# Altium schematic symbol library devices.SCHLIB: 305 symbols (part 2 of 5)
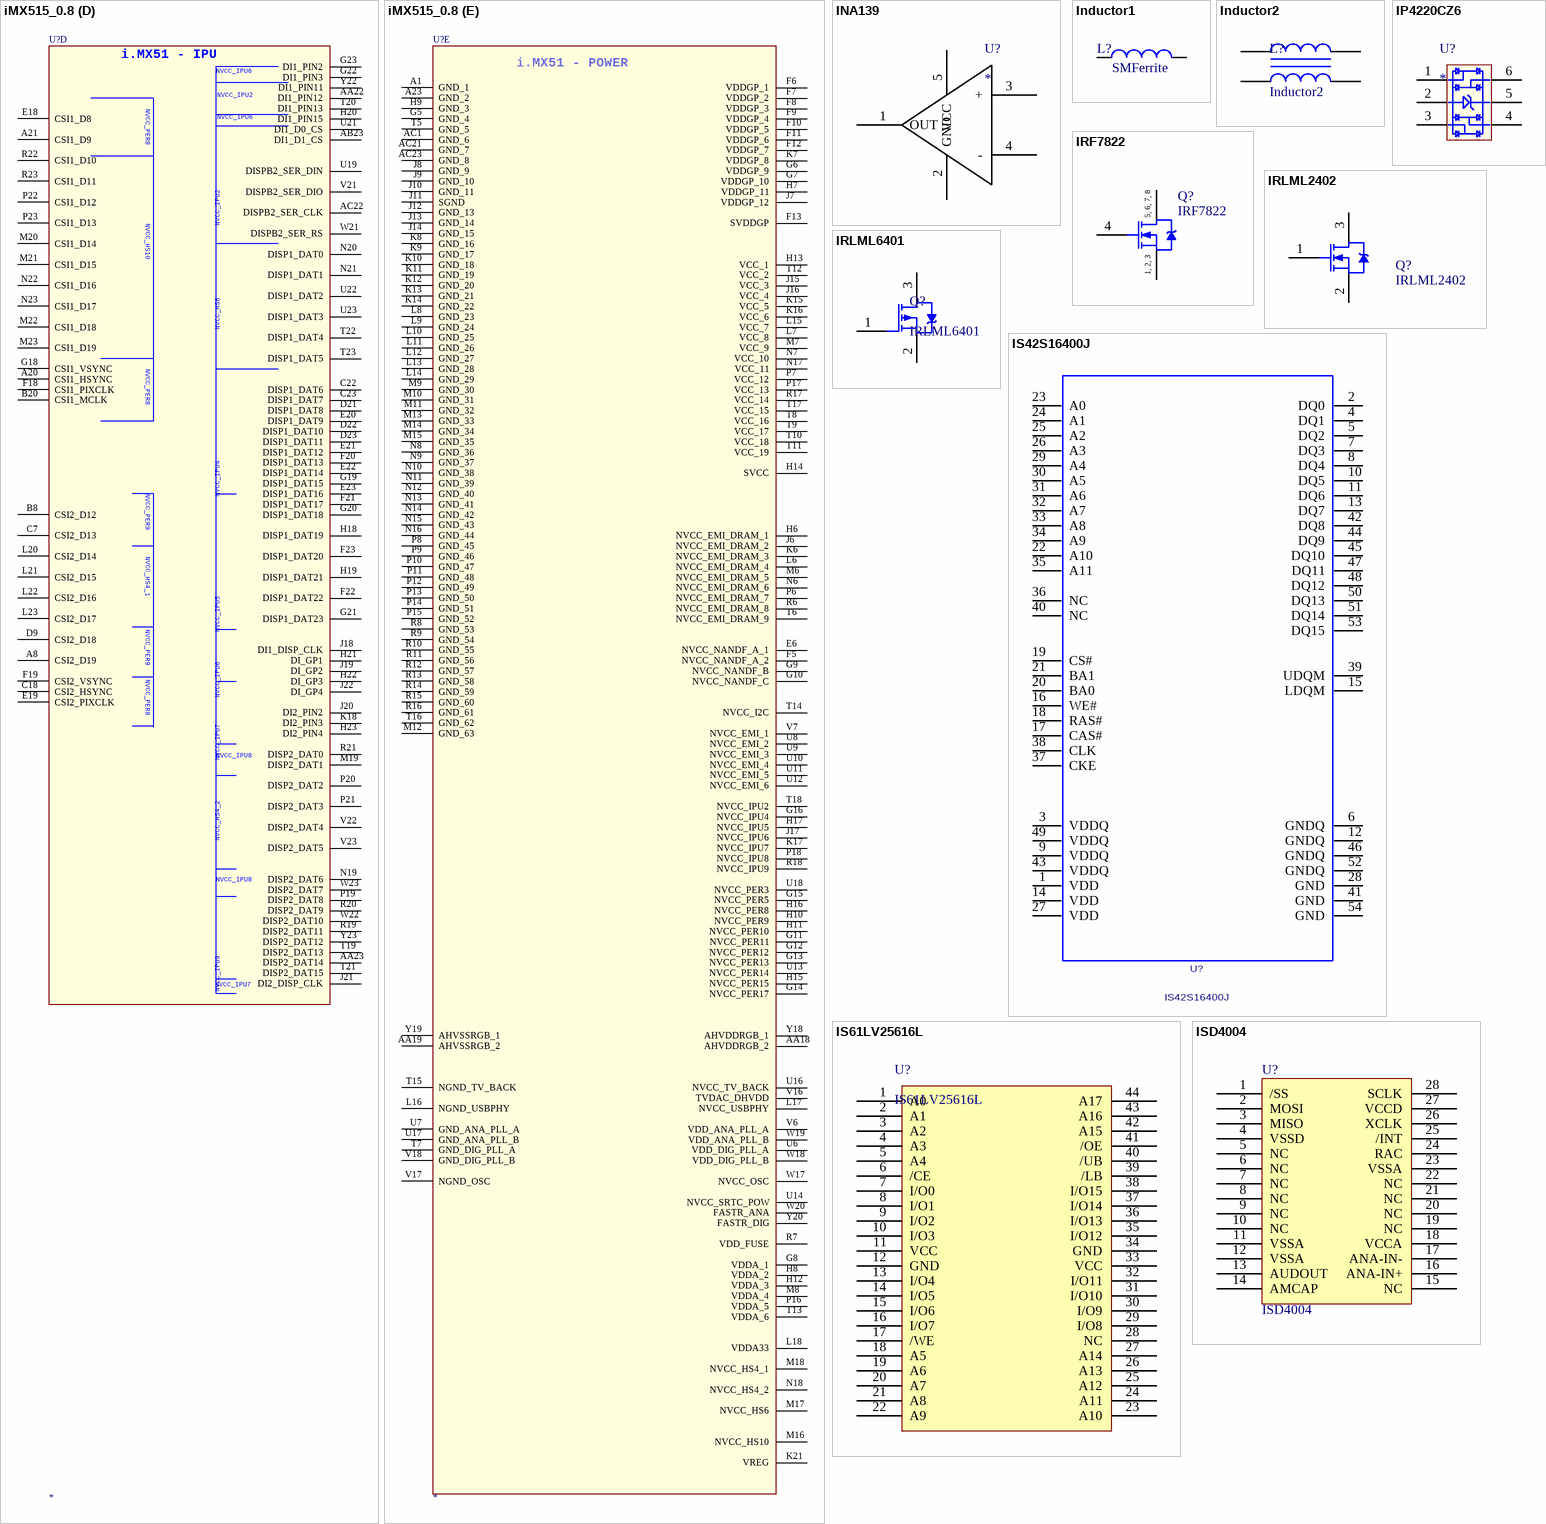
[diagram p50: symbols iMX515_0.8 to ISD4004]

## iMX515_0.8
designator U?
part A pins: A2 NANDF_CS5 (out), A3 NANDF_D13 (io), A4 NANDF_D8 (io), A5 NANDF_D5 (io), A6 NANDF_D2 (io), A7 NANDF_D0 (io), AA1 DRAM_SDCKE0 (out), AA2 DRAM_A1 (out), AA3 DRAM_A2 (out), AA4 EIM_BCLK (io), AA5 EIM_CS5 (out), AA6 EIM_CS4 (out), AA7 EIM_OE (out), AA8 EIM_A19 (io), AA9 EIM_A16 (io), AA10 EIM_D24 (io), AA11 EIM_D18 (io), AA12 EIM_DA12 (io), AA13 EIM_DA6 (io), AA14 EIM_DA2 (io), AB1 DRAM_A0 (out), AB2 EIM_CRE (out), AB3 EIM_RW (out), AB4 EIM_WAIT (in), AB5 EIM_A27 (io), AB6 EIM_A25 (io), AB7 EIM_A22 (io), AB8 EIM_A20 (io), AB9 EIM_A17 (io), AB10 EIM_D26 (io), AB11 EIM_D20 (io), AB12 EIM_DA14 (io), AB13 EIM_DA8 (io), AB14 EIM_DA3 (io), AC2 EIM_LBA (out), AC3 EIM_CS3 (out), AC4 EIM_A26 (io), AC5 EIM_A24 (io), AC6 EIM_A23 (io), AC7 EIM_A21 (io), AC8 EIM_A18 (io), AC9 EIM_D30 (io), AC10 EIM_D28 (io), AC11 EIM_D22 (io), AC12 EIM_D16 (io), AC13 EIM_DA10 (io), AC14 EIM_DA4 (io), AC15 EIM_DA0 (io), B1 NANDF_CS3 (out), B2 NANDF_CS4 (out), B3 NANDF_RDY_INT (in), B4 NANDF_D14 (io), B5 NANDF_D10 (io), B6 NANDF_D6 (io), B7 NANDF_D4 (io), C1 NANDF_RB3 (in), C2 NANDF_CS1 (out), C3 NANDF_CS0 (out), C4 NANDF_CS7 (out), C5 NANDF_D12 (io), C6 NANDF_D7 (io), D1 ~{NANDF_WP} (out), D2 NANDF_RB0 (in), D3 NANDF_RB2 (in), D4 NANDF_RB1 (in), D5 GPIO_NAND (io), D6 NANDF_D15 (io), D7 NANDF_D11 (io), D8 NANDF_D3 (io), E1 ~{NANDF_WE} (out), E2 ~{NANDF_RE} (in), E3 NANDF_ALE (out), E4 NANDF_CS2 (out), E5 NANDF_CS6 (out), E7 NANDF_D9 (io), E8 NANDF_D1 (io), F1 EIM_SDBA2 (out), F2 EIM_SDODT1 (out), F3 EIM_SDODT0 (out), F4 NANDF_CLE (out), G1 DRAM_D28 (io), G2 DRAM_D29 (io), G3 DRAM_D30 (io), G4 DRAM_D31 (io), H1 DRAM_D25 (io), H2 DRAM_D26 (io), H3 DRAM_SDQS3 (io), H4 ~{DRAM_SDQS3} (io), H5 DRAM_DQM3 (out), J1 DRAM_SDQS2 (io), J2 ~{DRAM_SDQS2} (io), J3 DRAM_D22 (io), J4 DRAM_D23 (io), J5 DRAM_D27 (io), K1 DRAM_D19 (io), K2 DRAM_DQM2 (out), K3 DRAM_D20 (io), K4 DRAM_D21 (io), K5 DRAM_D24 (io), L1 DRAM_D18 (io), L2 DRAM_D17 (io), L3 DRAM_D16 (io), L4 DRAM_D15 (io), L5 DRAM_D14 (io), M1 DRAM_D12 (io), M2 DRAM_DQM1 (out), M3 DRAM_D10 (io), M4 DRAM_D11 (io), M5 DRAM_D13 (io), N1 DRAM_D9 (io), N2 DRAM_D8 (io), N3 ~{DRAM_SDQS1} (io), N4 DRAM_SDQS1 (io), N5 DRAM_D7 (io), P1 ~{DRAM_SDQS0} (io), P2 DRAM_SDQS0 (io), P3 DRAM_DQM0 (out), P4 DRAM_D6 (io), P5 DRAM_D5 (io), R1 DRAM_D3 (io), R2 DRAM_D2 (io), R3 DRAM_D1 (io), R4 DRAM_D4 (io), R5 VREF, T1 DRAM_D0 (io), T2 DRAM_A14 (out), T3 DRAM_SDCLK (out), T4 ~{DRAM_SDCLK} (out), U1 DRAM_A13 (out), U2 DRAM_A12 (out), U3 EIM_SDBA1 (out), U4 DRAM_A11 (out), U5 DRAM_SDWE (out), V1 EIM_SDBA0 (out), V2 DRAM_A10 (out), V3 DRAM_A9 (out), V4 DRAM_CAS (out), V5 DRAM_A3 (out), V8 EIM_D23 (io), V9 EIM_EB3 (out), V10 EIM_EB2 (out), V11 EIM_DA11 (io), V12 EIM_EB0 (out), V13 EIM_DA1 (io), W1 DRAM_RAS (out), W2 DRAM_A8 (out), W3 DRAM_A6 (out), W4 DRAM_A4 (out), W5 DRAM_SDCKE1 (out), W6 EIM_CS0 (out), W7 EIM_D31 (io), W8 EIM_D27 (io), W9 EIM_D21 (io), W10 EIM_D17 (io), W11 EIM_DA13 (io), W12 EIM_EB1 (out), W13 EIM_DA7 (io), Y1 DRAM_A7 (out), Y2 DRAM_A5 (out), Y3 DRAM_CS1 (out), Y4 DRAM_CS0 (out), Y5 EIM_DTACK (out), Y6 EIM_CS1 (out), Y7 EIM_CS2 (out), Y8 EIM_D29 (io), Y9 EIM_D25 (io), Y10 EIM_D19 (io), Y11 EIM_DA15 (io), Y12 EIM_DA9 (io), Y13 EIM_DA5 (io)
part B pins: A9 AUD3_BB_FS, A10 CSPI1_SCLK, A11 USBH1_DATA1, A12 USBH1_DATA5, A13 UART1_TXD, A14 UART2_RXD, A16 KEY_COL1, A17 SD1_CLK, A18 SD1_DATA1, A19 SD1_DATA3, AB16 I2C1_DAT, AB17 IOR_BACK (in), AB18 IOG_BACK (in), AB19 IOB_BACK (in), AC17 IOR (out), AC18 IOG (out), AC19 IOB (out), B9 AUD3_BB_RXD, B10 CSPI1_SS1, B11 USBH1_DIR, B12 USBH1_DATA2, B13 USBH1_DATA6, B14 UART1_CTS, B15 UART3_TXD, B16 KEY_ROW1, B17 KEY_COL3, B18 SD2_CLK, B19 SD2_DATA1, C8 AUD3_BB_CK, C9 CSPI1_RDY, C10 CSPI1_MISO, C11 USBH1_NXT, C12 USBH1_DATA3, C13 USBH1_DATA7, C14 UART2_TXD, C15 KEY_ROW3, C16 KEY_COL5, C17 SD2_DATA3, D10 CSPI1_MOSI, D11 USBH1_CLK, D12 USBH1_DATA4, D13 UART1_RTS, D14 KEY_ROW0, D15 KEY_COL2, D16 SD1_DATA0, D17 SD2_DATA2, E9 AUD3_BB_TXD, E10 CSPI1_SS0, E11 USBH1_STP, E12 USBH1_DATA0, E13 UART1_RXD, E14 OWIRE_LINE, E15 KEY_COL0, E16 SD1_CMD, E17 SD2_DATA0, F14 UART3_RXD, F15 KEY_ROW2, F16 KEY_COL4, F17 SD1_DATA2, G17 SD2_CMD, K19 RREFEXT, K20 VBUS (in), K22 DN (io), K23 DP (io), L19 ID (in), U15 VREFOUT, W15 I2C1_CLK, Y17 COMP
part C pins: A15 STR, A22 GPIO1_2 (io), AA15 JTAG_TDO (out), AA16 PMIC_INT_REQ, AA17 PMIC_RDY, AA20 CKIH2 (in), AA21 CLK_SS (in), AB15 ~{JTAG_DE} (in), AB20 EXTAL, AB21 BOOT_MODE0 (io), AB22 BOOT_MODE1 (io), AC16 JTAG_TMS (in), AC20 XTAL, B21 GPIO1_0 (io), B22 GPIO1_4 (io), B23 GPIO1_7 (io), C19 GPIO1_6 (io), C20 GPIO1_9 (io), C21 GPIO1_8 (io), D18 GPIO1_3 (io), D19 GPIO1_5 (io), D20 GPIO1_1 (io), J23 GPANAIO, U20 ~{POR} (in), V14 JTAG_MOD (in), V15 JTAG_TCK (in), V19 CKIH1 (in), V20 TEST_MODE (in), W14 JTAG_TRSTB (in), W16 PMIC_ON_REQ, Y14 JTAG_TDI (in), Y15 PMIC_STBY_REQ, Y16 CKIL (in), Y21 ~{RESET_IN} (in)
part D pins: A8 CSI2_D19, A20 CSI1_HSYNC, A21 CSI1_D9, AA22 DI1_PIN12, AA23 DISP2_DAT14, AB23 DI1_D1_CS, AC22 DISPB2_SER_CLK, B8 CSI2_D12, B20 CSI1_MCLK, C7 CSI2_D13, C18 CSI2_HSYNC, C22 DISP1_DAT6, C23 DISP1_DAT7, D9 CSI2_D18, D21 DISP1_DAT8, D22 DISP1_DAT10, D23 DISP1_DAT11, E18 CSI1_D8, E19 CSI2_PIXCLK, E20 DISP1_DAT9, E21 DISP1_DAT12, E22 DISP1_DAT14, E23 DISP1_DAT16, F18 CSI1_PIXCLK, F19 CSI2_VSYNC, F20 DISP1_DAT13, F21 DISP1_DAT17, F22 DISP1_DAT22, F23 DISP1_DAT20, G18 CSI1_VSYNC, G19 DISP1_DAT15, G20 DISP1_DAT18, G21 DISP1_DAT23, G22 DI1_PIN3, G23 DI1_PIN2, H18 DISP1_DAT19, H19 DISP1_DAT21, H20 DI1_PIN15, H21 DI_GP1, H22 DI_GP3, H23 DI2_PIN4, J18 DI1_DISP_CLK, J19 DI_GP2, J20 DI2_PIN2, J21 DI2_DISP_CLK, J22 DI_GP4, K18 DI2_PIN3, L20 CSI2_D14, L21 CSI2_D15, L22 CSI2_D16, L23 CSI2_D17, M19 DISP2_DAT1, M20 CSI1_D14, M21 CSI1_D15, M22 CSI1_D18, M23 CSI1_D19, N19 DISP2_DAT6, N20 DISP1_DAT0, N21 DISP1_DAT1, N22 CSI1_D16, N23 CSI1_D17, P19 DISP2_DAT8, P20 DISP2_DAT2, P21 DISP2_DAT3, P22 CSI1_D12, P23 CSI1_D13, R19 DISP2_DAT11, R20 DISP2_DAT9, R21 DISP2_DAT0, R22 CSI1_D10, R23 CSI1_D11, T19 DISP2_DAT13, T20 DI1_PIN13, T21 DISP2_DAT15, T22 DISP1_DAT4, T23 DISP1_DAT5, U19 DISPB2_SER_DIN, U21 DI1_D0_CS, U22 DISP1_DAT2, U23 DISP1_DAT3, V21 DISPB2_SER_DIO, V22 DISP2_DAT4, V23 DISP2_DAT5, W21 DISPB2_SER_RS, W22 DISP2_DAT10, W23 DISP2_DAT7, Y22 DI1_PIN11, Y23 DISP2_DAT12
part E pins: A1 GND_1 (power), A23 GND_2 (power), AA18 AHVDDRGB_2 (power), AA19 AHVSSRGB_2 (power), AC1 GND_6 (power), AC21 GND_7 (power), AC23 GND_8 (power), E6 NVCC_NANDF_A_1 (power), F5 NVCC_NANDF_A_2 (power), F6 VDDGP_1 (power), F7 VDDGP_2 (power), F8 VDDGP_3 (power), F9 VDDGP_4 (power), F10 VDDGP_5 (power), F11 VDDGP_6 (power), F12 VDDGP_7 (power), F13 SVDDGP (power), G5 GND_4 (power), G6 VDDGP_9 (power), G7 VDDGP_10 (power), G8 VDDA_1 (power), G9 NVCC_NANDF_B (power), G10 NVCC_NANDF_C (power), G11 NVCC_PER11 (power), G12 NVCC_PER12 (power), G13 NVCC_PER13 (power), G14 NVCC_PER17 (power), G15 NVCC_PER5 (power), G16 NVCC_IPU4 (power), H6 NVCC_EMI_DRAM_1 (power), H7 VDDGP_11 (power), H8 VDDA_2 (power), H9 GND_3 (power), H10 NVCC_PER9 (power), H11 NVCC_PER10 (power), H12 VDDA_3 (power), H13 VCC_1 (power), H14 SVCC (power), H15 NVCC_PER15 (power), H16 NVCC_PER8 (power), H17 NVCC_IPU5 (power), J6 NVCC_EMI_DRAM_2 (power), J7 VDDGP_12 (power), J8 GND_9 (power), J9 GND_10 (power), J10 GND_11 (power), J11 SGND (power), J12 GND_13 (power), J13 GND_14 (power), J14 GND_15 (power), J15 VCC_3 (power), J16 VCC_4 (power), J17 NVCC_IPU6 (power), K6 NVCC_EMI_DRAM_3 (power), K7 VDDGP_8 (power), K8 GND_16 (power), K9 GND_17 (power), K10 GND_18 (power), K11 GND_19 (power), K12 GND_20 (power), K13 GND_21 (power), K14 GND_22 (power), K15 VCC_5 (power), K16 VCC_6 (power), K17 NVCC_IPU7 (power), K21 VREG (power), L6 NVCC_EMI_DRAM_4 (power), L7 VCC_8 (power), L8 GND_23 (power), L9 GND_24 (power), L10 GND_25 (power), L11 GND_26 (power), L12 GND_27 (power), L13 GND_28 (power), L14 GND_29 (power), L15 VCC_7 (power), L16 NGND_USBPHY (power), L17 NVCC_USBPHY (power), L18 VDDA33 (power), M6 NVCC_EMI_DRAM_5 (power), M7 VCC_9 (power), M8 VDDA_4 (power), M9 GND_30 (power), M10 GND_31 (power), M11 GND_32 (power), M12 GND_63 (power), M13 GND_33 (power), M14 GND_34 (power), M15 GND_35 (power), M16 NVCC_HS10 (power), M17 NVCC_HS6 (power), M18 NVCC_HS4_1 (power), N6 NVCC_EMI_DRAM_6 (power), N7 VCC_10 (power), N8 GND_36 (power), N9 GND_37 (power), N10 GND_38 (power), N11 GND_39 (power), N12 GND_40 (power), N13 GND_41 (power), N14 GND_42 (power), N15 GND_43 (power), N16 GND_44 (power), N17 VCC_11 (power), N18 NVCC_HS4_2 (power), P6 NVCC_EMI_DRAM_7 (power), P7 VCC_12 (power), P8 GND_45 (power), P9 GND_46 (power), P10 GND_47 (power), P11 GND_48 (power), P12 GND_49 (power), P13 GND_50 (power), P14 GND_51 (power), P15 GND_52 (power), P16 VDDA_5 (power), P17 VCC_13 (power), P18 NVCC_IPU8 (power), R6 NVCC_EMI_DRAM_8 (power), R7 VDD_FUSE (power), R8 GND_53 (power), R9 GND_54 (power), R10 GND_55 (power), R11 GND_56 (power), R12 GND_57 (power), R13 GND_58 (power), R14 GND_59 (power), R15 GND_60 (power), R16 GND_61 (power), R17 VCC_14 (power), R18 NVCC_IPU9 (power), T5 GND_5 (power), T6 NVCC_EMI_DRAM_9 (power), T7 GND_DIG_PLL_A (power), T8 VCC_16 (power), T9 VCC_17 (power), T10 VCC_18 (power), T11 VCC_19 (power), T12 VCC_2 (power), T13 VDDA_6 (power), T14 NVCC_I2C (power), T15 NGND_TV_BACK (power), T16 GND_62 (power), T17 VCC_15 (power), T18 NVCC_IPU2 (power), U6 VDD_DIG_PLL_A (power), U7 GND_ANA_PLL_A (power), U8 NVCC_EMI_2 (power), U9 NVCC_EMI_3 (power), U10 NVCC_EMI_4 (power), U11 NVCC_EMI_5 (power), U12 NVCC_EMI_6 (power), U13 NVCC_PER14 (power), U14 NVCC_SRTC_POW (power), U16 NVCC_TV_BACK (power), U17 GND_ANA_PLL_B (power), U18 NVCC_PER3 (power), V6 VDD_ANA_PLL_A (power), V7 NVCC_EMI_1 (power), V16 TVDAC_DHVDD (power), V17 NGND_OSC (power), V18 GND_DIG_PLL_B (power), W17 NVCC_OSC (power), W18 VDD_DIG_PLL_B (power), W19 VDD_ANA_PLL_B (power), W20 FASTR_ANA (power), Y18 AHVDDRGB_1 (power), Y19 AHVSSRGB_1 (power), Y20 FASTR_DIG (power)
part A text: i.MX51 - MEMORY INTERFACE; EMI; DDR; NVCC_EMI; NVCC_EMI_DRAM; NVCC_NANDF_A; NAND FLASH
part B text: i.MX51 - MISC.
part C text: i.MX51 - CONTROL PINS; NVCC_SRTC
part D text: i.MX51 - IPU
part E text: i.MX51 - POWER

## INA139
designator U?
pins: 1 OUT, 2 GND, 3 +, 4 -, 5 VCC

## Inductor1
designator L?, comment SMFerrite
Inductor; Code_IEC: 1005; Published: 8-Jun-2000; LatestRevisionDate: 17-Jul-2002; LatestRevisionNote: Re-released for DXP Platform.; PackageReference: 0402-A; Publisher: Altium Limited; Code_JEITA: 0402
footprint 0805C
footprint INDC1608-0603 (Chip Inductor; Body 1.6 x 0.8 mm (LxW typ))
footprint INDC2010-0804 (2012 Chip; Chip Inductor; Body 2.0 x 1.2 mm (LxW typ))
footprint INDC2012-0805 (Chip Inductor; Body 2 x 1.2 mm (LxW typ))
footprint INDC3216-1206 (3216 Chip; Chip Inductor; Body 3.2 x 1.6 mm (LxW typ))
footprint INDC4510-1804 (4564 Chip; Chip Inductor; Body 4.5 x 6.4 mm (LxW typ))
simulation model INDUCTOR (Inductor)
signal-integrity model Inductor
pins: 1, 2

## Inductor2
designator L?
Magnetic-Core Inductor; Published: 24-Mar-1999; LatestRevisionDate: 17-Jul-2002; LatestRevisionNote: Re-released for DXP Platform.; PackageReference: AXIAL-0.9; Publisher: Altium Limited; PackageDescription: Axial Device, Thru-Hole; 2 Leads; 0.9 in Pin Spacing
pins: 1, 2, 3, 4

## IP4220CZ6
designator U?
pins: 1, 2, 3, 4, 5, 6

## IRF7822
designator Q?
HEXFET Power MOSFET; Published: 17-Sep-2003; LatestRevisionDate: 13-Apr-2006; LatestRevisionNote: IPC-7351 Footprint Added.; DatasheetVersion: 11-Jul-2001; PackageVersion: Feb-2001; PackageReference: SO-8; Publisher: Altium Limited; PackageDescription: 8-Pin Plastic Small Outline Integrated Circuit 1.27 mm Pitch; Code_JEDEC: MS-012-AA; Code_IPC: SOIC127P600-8; ComponentLink1Description: Manufacturer Link; ComponentLink1URL: http://www.irf.com/; ComponentLink2Description: Datasheet; ComponentLink2URL: http://www.irf.com/product-info/datasheets/data/irf7822.pdf
footprint SO-8_N (SOIC, 8-Leads, Body 4.9x3.9mm, Pitch 1.27mm, IPC Medium Density)
footprint SO-8_L (SOIC, 8-Leads, Body 4.9x3.9mm, Pitch 1.27mm, IPC High Density)
footprint SO-8_M (SOIC, 8-Leads, Body 4.9x3.9mm, Pitch 1.27mm, IPC Low Density)
3D model SO-8 (8-Pin Plastic Small Outline Integrated Circuit 1.27 mm Pitch)
pins: 1 S, 2 S, 3 S, 4 G, 5 D, 6 D, 7 D, 8 D
text: 5, 6, 7, 8; 1, 2, 3

## IRLML2402
designator Q?
HEXFET Power MOSFET; Published: 8-Jun-2000; LatestRevisionDate: 17-Jul-2002; LatestRevisionNote: Re-released for DXP Platform.; DatasheetVersion: Aug-1997; PackageReference: SOT-23; Publisher: Altium Limited; PackageDescription: SOT-23; 3 Leads; Body 3.1 x 2.5 mm, inc. leads (LxW max); ComponentLink1Description: Manufacturer Link; ComponentLink1URL: http://www.irf.com/; ComponentLink2Description: Datasheet; ComponentLink2URL: http://www.irf.com/product-info/datasheets/data/irlml2402.pdf
footprint SOT-23 (SOT-23; 3 Leads; Body 3.1 x 2.5 mm, inc. leads (LxW max))
simulation model IRLML2402 (SUBCKT)
pins: 1 G, 2 S, 3 D

## IRLML6401
designator Q?
footprint SOT-23 (SOT-23; 3 Leads; Body 3.0 x 2.6 mm, inc. leads (LxW max))
pins: 1 G, 2 S, 3 D

## IS42S16400J
designator U?
PCB DECAL: TSOP-54
footprint TSOP-54
pins: 1 VDD, 2 DQ0, 3 VDDQ, 4 DQ1, 5 DQ2, 6 GNDQ, 7 DQ3, 8 DQ4, 9 VDDQ, 10 DQ5, 11 DQ6, 12 GNDQ, 13 DQ7, 14 VDD, 15 LDQM, 16 WE#, 17 CAS#, 18 RAS#, 19 CS#, 20 BA0, 21 BA1, 22 A10, 23 A0, 24 A1, 25 A2, 26 A3, 27 VDD, 28 GND, 29 A4, 30 A5, 31 A6, 32 A7, 33 A8, 34 A9, 35 A11, 36 NC, 37 CKE, 38 CLK, 39 UDQM, 40 NC, 41 GND, 42 DQ8, 43 VDDQ, 44 DQ9, 45 DQ10, 46 GNDQ, 47 DQ11, 48 DQ12, 49 VDDQ, 50 DQ13, 51 DQ14, 52 GNDQ, 53 DQ15, 54 GND

## IS61LV25616L
designator U?
pins: 1 A0, 2 A1, 3 A2, 4 A3, 5 A4, 6 /CE, 7 I/O0, 8 I/O1, 9 I/O2, 10 I/O3, 11 VCC, 12 GND, 13 I/O4, 14 I/O5, 15 I/O6, 16 I/O7, 17 /WE, 18 A5, 19 A6, 20 A7, 21 A8, 22 A9, 23 A10, 24 A11, 25 A12, 26 A13, 27 A14, 28 NC, 29 I/O8, 30 I/O9, 31 I/O10, 32 I/O11, 33 VCC, 34 GND, 35 I/O12, 36 I/O13, 37 I/O14, 38 I/O15, 39 /LB, 40 /UB, 41 /OE, 42 A15, 43 A16, 44 A17

## ISD4004
designator U?
pins: 1 /SS, 2 MOSI, 3 MISO, 4 VSSD, 5 NC, 6 NC, 7 NC, 8 NC, 9 NC, 10 NC, 11 VSSA, 12 VSSA, 13 AUDOUT, 14 AMCAP, 15 NC, 16 ANA-IN+, 17 ANA-IN-, 18 VCCA, 19 NC, 20 NC, 21 NC, 22 NC, 23 VSSA, 24 RAC, 25 /INT, 26 XCLK, 27 VCCD, 28 SCLK

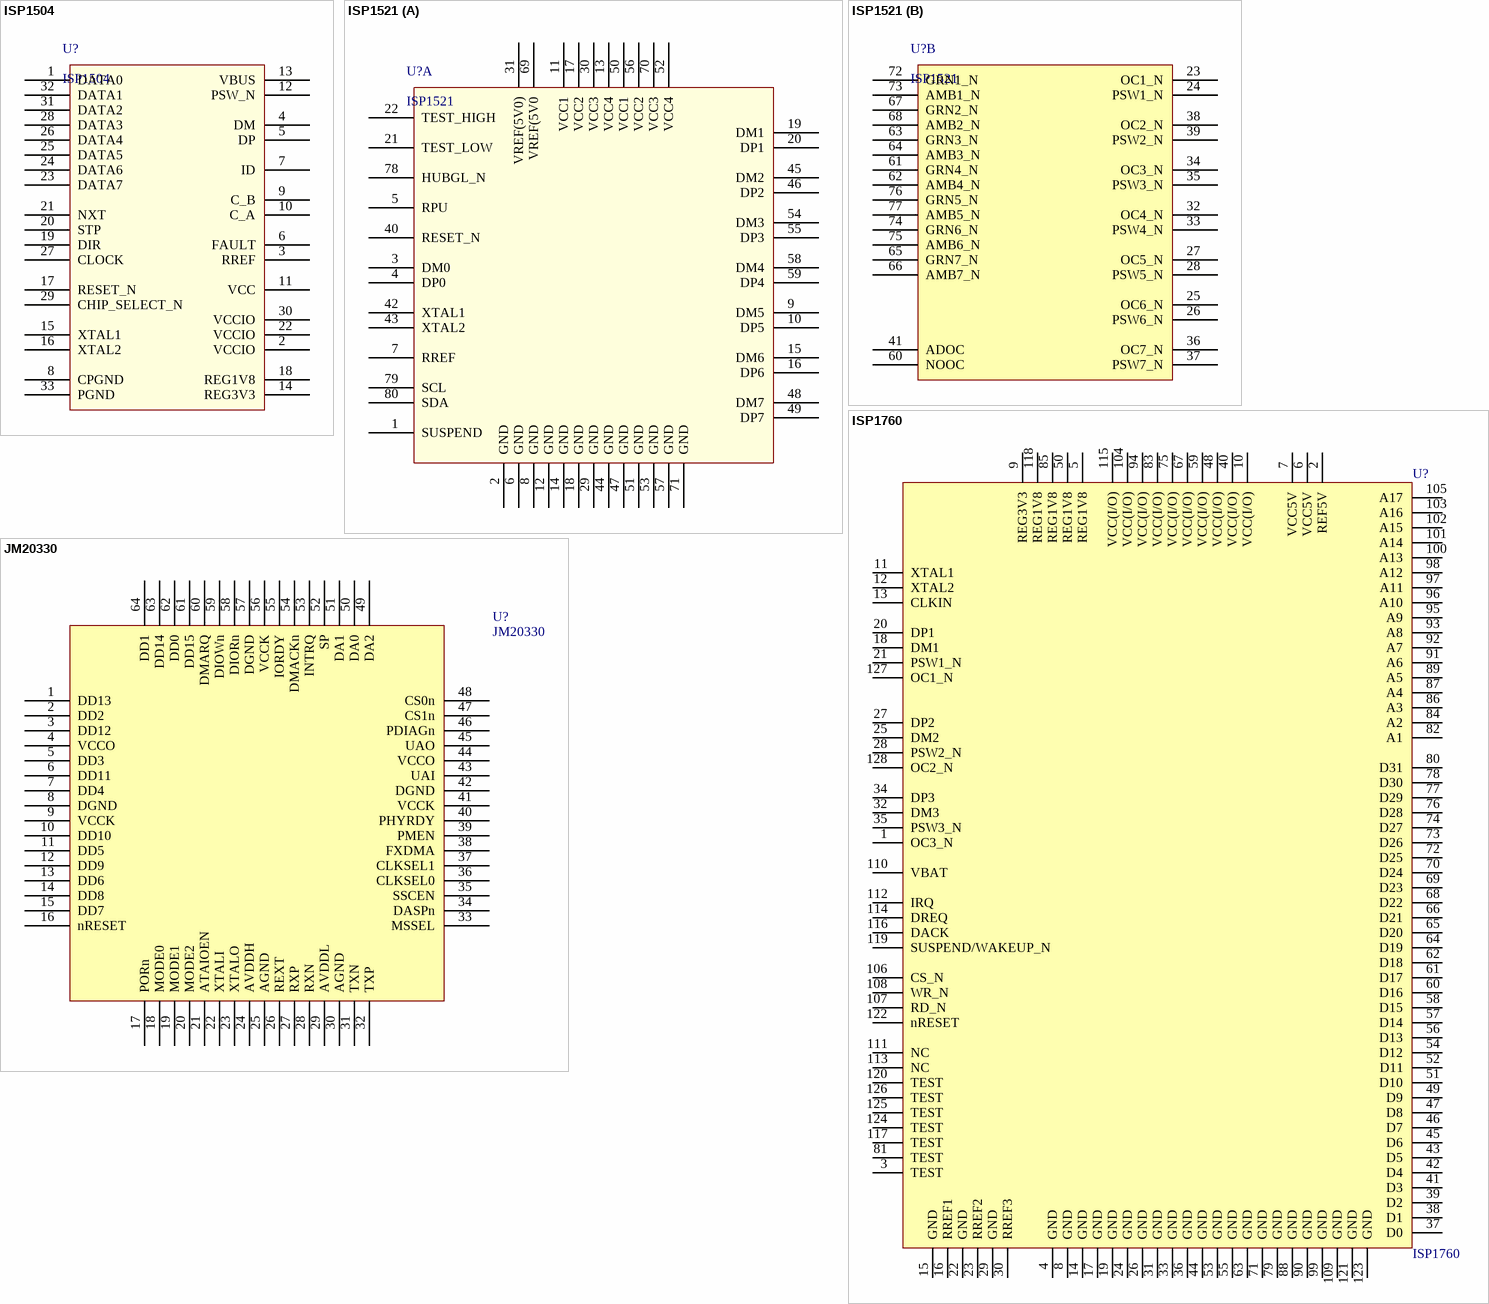
[diagram p8: symbols ISP1504 to JM20330]

## ISP1504
designator U?
pins: 1 DATA0, 2 VCCIO, 3 RREF, 4 DM, 5 DP, 6 FAULT, 7 ID, 8 CPGND, 9 C_B, 10 C_A, 11 VCC, 12 PSW_N, 13 VBUS, 14 REG3V3, 15 XTAL1, 16 XTAL2, 17 RESET_N, 18 REG1V8, 19 DIR, 20 STP, 21 NXT, 22 VCCIO, 23 DATA7, 24 DATA6, 25 DATA5, 26 DATA4, 27 CLOCK, 28 DATA3, 29 CHIP_SELECT_N, 30 VCCIO, 31 DATA2, 32 DATA1, 33 PGND

## ISP1521
designator U?
part A pins: 1 SUSPEND, 2 GND, 3 DM0, 4 DP0, 5 RPU, 6 GND, 7 RREF, 8 GND, 9 DM5, 10 DP5, 11 VCC1, 12 GND, 13 VCC4, 14 GND, 15 DM6, 16 DP6, 17 VCC2, 18 GND, 19 DM1, 20 DP1, 21 TEST_LOW, 22 TEST_HIGH, 29 GND, 30 VCC3, 31 VREF(5V0), 40 RESET_N, 42 XTAL1, 43 XTAL2, 44 GND, 45 DM2, 46 DP2, 47 GND, 48 DM7, 49 DP7, 50 VCC1, 51 GND, 52 VCC4, 53 GND, 54 DM3, 55 DP3, 56 VCC2, 57 GND, 58 DM4, 59 DP4, 69 VREF(5V0, 70 VCC3, 71 GND, 78 HUBGL_N, 79 SCL, 80 SDA
part B pins: 23 OC1_N, 24 PSW1_N, 25 OC6_N, 26 PSW6_N, 27 OC5_N, 28 PSW5_N, 32 OC4_N, 33 PSW4_N, 34 OC3_N, 35 PSW3_N, 36 OC7_N, 37 PSW7_N, 38 OC2_N, 39 PSW2_N, 41 ADOC, 60 NOOC, 61 GRN4_N, 62 AMB4_N, 63 GRN3_N, 64 AMB3_N, 65 GRN7_N, 66 AMB7_N, 67 GRN2_N, 68 AMB2_N, 72 GRN1_N, 73 AMB1_N, 74 GRN6_N, 75 AMB6_N, 76 GRN5_N, 77 AMB5_N

## ISP1760
designator U?
footprint LQFP128
pins: 1 OC3_N, 2 REF5V, 3 TEST, 4 GND, 5 REG1V8, 6 VCC5V, 7 VCC5V, 8 GND, 9 REG3V3, 10 VCC(I/O), 11 XTAL1, 12 XTAL2, 13 CLKIN, 14 GND, 15 GND, 16 RREF1, 17 GND, 18 DM1, 19 GND, 20 DP1, 21 PSW1_N, 22 GND, 23 RREF2, 24 GND, 25 DM2, 26 GND, 27 DP2, 28 PSW2_N, 29 GND, 30 RREF3, 31 GND, 32 DM3, 33 GND, 34 DP3, 35 PSW3_N, 36 GND, 37 D0, 38 D1, 39 D2, 40 VCC(I/O), 41 D3, 42 D4, 43 D5, 44 GND, 45 D6, 46 D7, 47 D8, 48 VCC(I/O), 49 D9, 50 REG1V8, 51 D10, 52 D11, 53 GND, 54 D12, 55 GND, 56 D13, 57 D14, 58 D15, 59 VCC(I/O), 60 D16, 61 D17, 62 D18, 63 GND, 64 D19, 65 D20, 66 D21, 67 VCC(I/O), 68 D22, 69 D23, 70 D24, 71 GND, 72 D25, 73 D26, 74 D27, 75 VCC(I/O), 76 D28, 77 D29, 78 D30, 79 GND, 80 D31, 81 TEST, 82 A1, 83 VCC(I/O), 84 A2, 85 REG1V8, 86 A3, 87 A4, 88 GND, 89 A5, 90 GND, 91 A6, 92 A7, 93 A8, 94 VCC(I/O), 95 A9, 96 A10, 97 A11, 98 A12, 99 GND, 100 A13, 101 A14, 102 A15, 103 A16, 104 VCC(I/O), 105 A17, 106 CS_N, 107 RD_N, 108 WR_N, 109 GND, 110 VBAT, 111 NC, 112 IRQ, 113 NC, 114 DREQ, 115 VCC(I/O), 116 DACK, 117 TEST, 118 REG1V8, 119 SUSPEND/WAKEUP_N, 120 TEST, 121 GND, 122 nRESET, 123 GND, 124 TEST, 125 TEST, 126 TEST, 127 OC1_N, 128 OC2_N

## JM20330
designator U?
pins: 1 DD13, 2 DD2, 3 DD12, 4 VCCO, 5 DD3, 6 DD11, 7 DD4, 8 DGND, 9 VCCK, 10 DD10, 11 DD5, 12 DD9, 13 DD6, 14 DD8, 15 DD7, 16 nRESET, 17 PORn, 18 MODE0, 19 MODE1, 20 MODE2, 21 ATAIOEN, 22 XTALI, 23 XTALO, 24 AVDDH, 25 AGND, 26 REXT, 27 RXP, 28 RXN, 29 AVDDL, 30 AGND, 31 TXN, 32 TXP, 33 MSSEL, 34 DASPn, 35 SSCEN, 36 CLKSEL0, 37 CLKSEL1, 38 FXDMA, 39 PMEN, 40 PHYRDY, 41 VCCK, 42 DGND, 43 UAI, 44 VCCO, 45 UAO, 46 PDIAGn, 47 CS1n, 48 CS0n, 49 DA2, 50 DA0, 51 DA1, 52 SP, 53 INTRQ, 54 DMACKn, 55 IORDY, 56 VCCK, 57 DGND, 58 DIORn, 59 DIOWn, 60 DMARQ, 61 DD15, 62 DD0, 63 DD14, 64 DD1

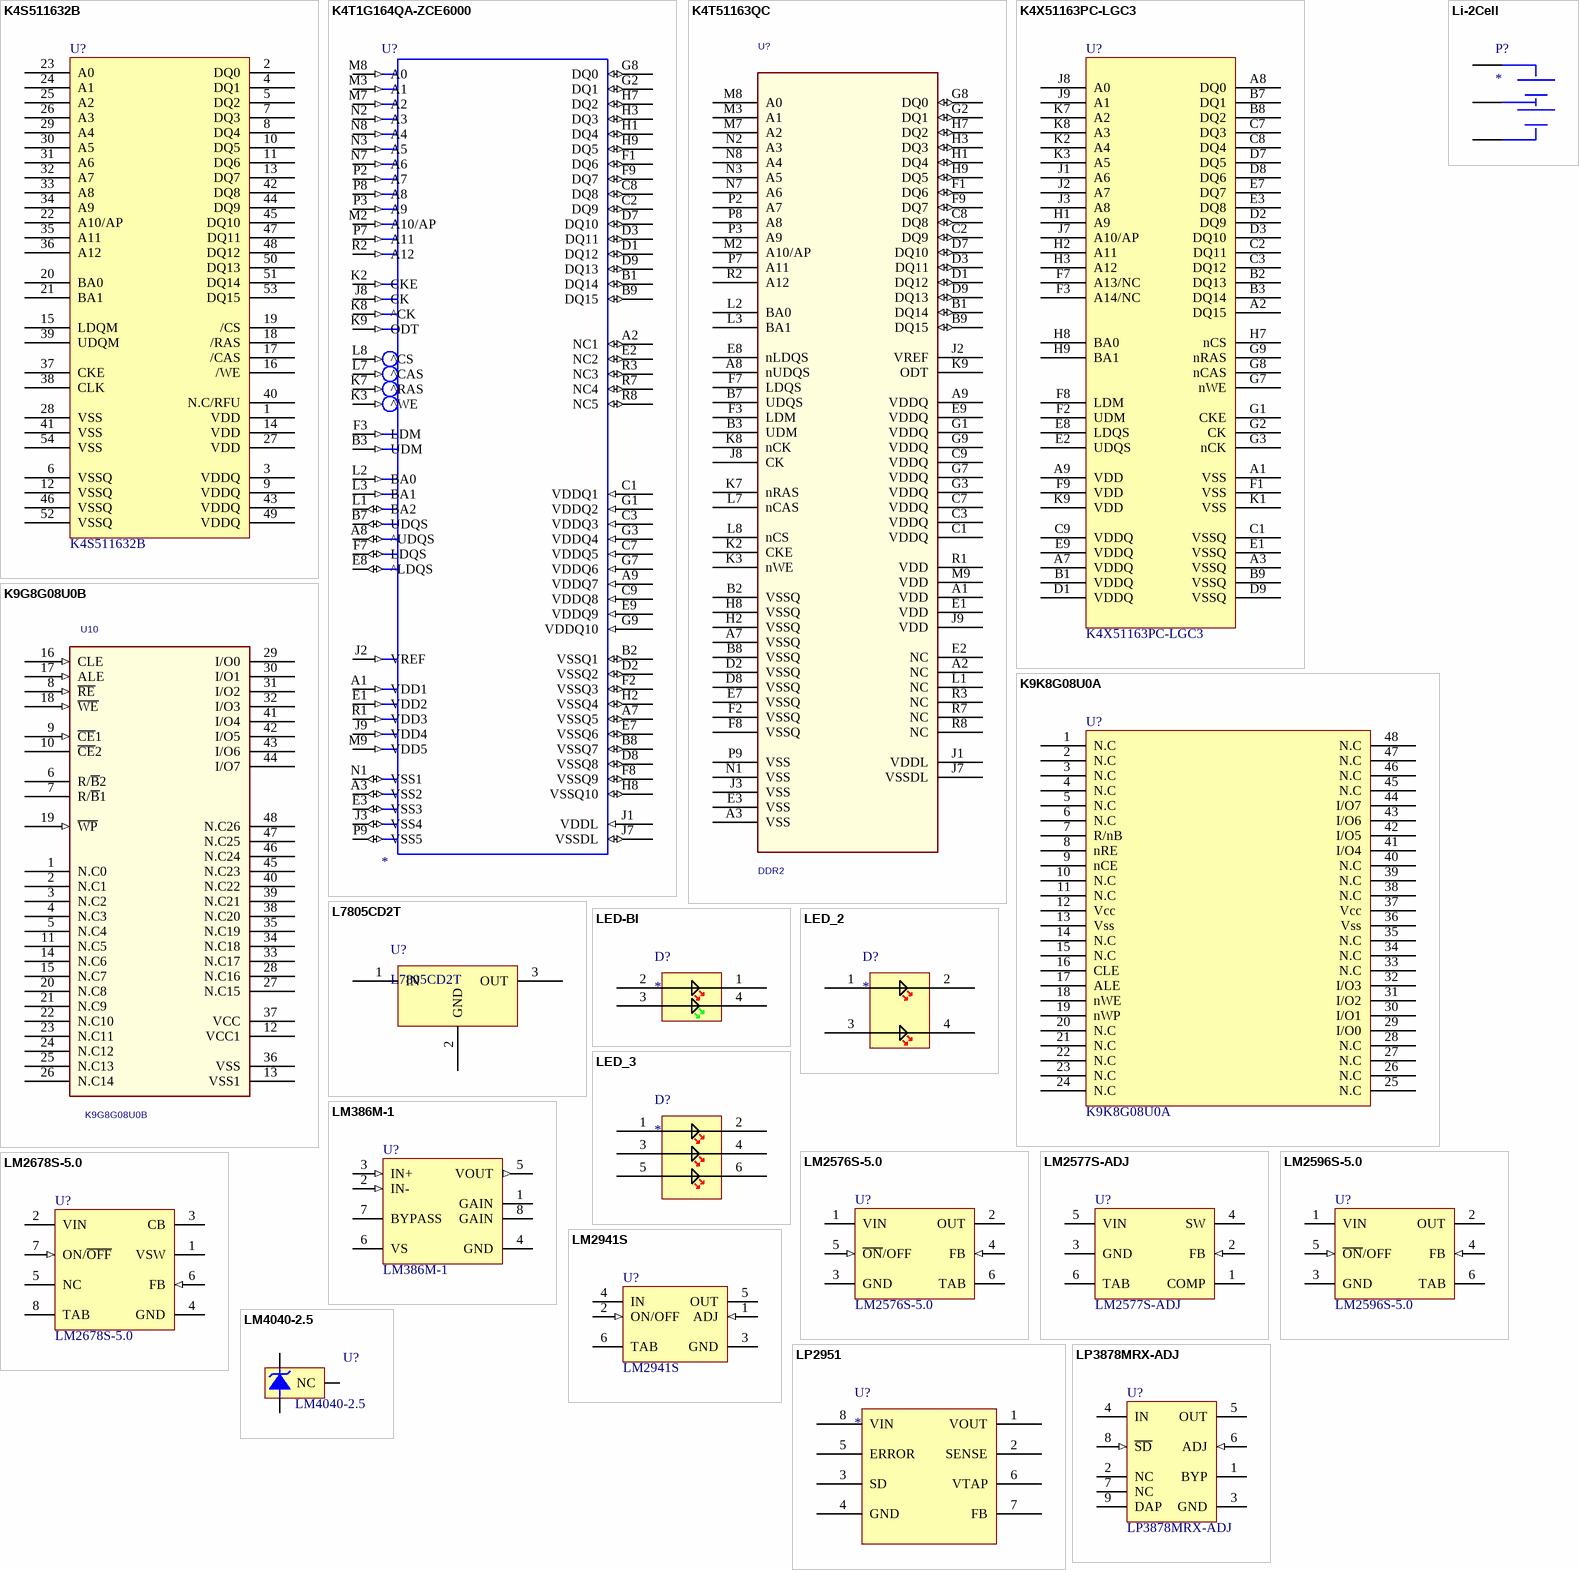
[diagram p9: symbols K4S511632B to LP3878MRX-ADJ]

## K4S511632B
designator U?
pins: 1 VDD, 2 DQ0, 3 VDDQ, 4 DQ1, 5 DQ2, 6 VSSQ, 7 DQ3, 8 DQ4, 9 VDDQ, 10 DQ5, 11 DQ6, 12 VSSQ, 13 DQ7, 14 VDD, 15 LDQM, 16 /WE, 17 /CAS, 18 /RAS, 19 /CS, 20 BA0, 21 BA1, 22 A10/AP, 23 A0, 24 A1, 25 A2, 26 A3, 27 VDD, 28 VSS, 29 A4, 30 A5, 31 A6, 32 A7, 33 A8, 34 A9, 35 A11, 36 A12, 37 CKE, 38 CLK, 39 UDQM, 40 N.C/RFU, 41 VSS, 42 DQ8, 43 VDDQ, 44 DQ9, 45 DQ10, 46 VSSQ, 47 DQ11, 48 DQ12, 49 VDDQ, 50 DQ13, 51 DQ14, 52 VSSQ, 53 DQ15, 54 VSS

## K4T1G164QA-ZCE6000
designator U?
PARTS: 1; OriginalSymbolOrigin: (20,540); LEVEL: STD; DEVICE: K4T1G164QA-ZCE6000
pins: A1 VDD1 (in), A2 NC1 (io), A3 VSS2 (io), A7 VSSQ5 (io), A8 ^UDQS (io), A9 VDDQ7 (in), B1 DQ14 (io), B2 VSSQ1 (io), B3 UDM (in), B7 UDQS (io), B8 VSSQ7 (io), B9 DQ15 (io), C1 VDDQ1 (in), C2 DQ9 (io), C3 VDDQ3 (in), C7 VDDQ5 (in), C8 DQ8 (io), C9 VDDQ8 (in), D1 DQ12 (io), D2 VSSQ2 (io), D3 DQ11 (io), D7 DQ10 (io), D8 VSSQ8 (io), D9 DQ13 (io), E1 VDD2 (in), E2 NC2 (io), E3 VSS3 (io), E7 VSSQ6 (io), E8 ^LDQS (io), E9 VDDQ9 (in), F1 DQ6 (io), F2 VSSQ3 (io), F3 LDM (in), F7 LDQS (io), F8 VSSQ9 (io), F9 DQ7 (io), G1 VDDQ2 (in), G2 DQ1 (io), G3 VDDQ4 (in), G7 VDDQ6 (in), G8 DQ0 (io), G9 VDDQ10 (in), H1 DQ4 (io), H2 VSSQ4 (io), H3 DQ3 (io), H7 DQ2 (io), H8 VSSQ10 (io), H9 DQ5 (io), J1 VDDL (in), J2 VREF (in), J3 VSS4 (io), J7 VSSDL (io), J8 CK (in), J9 VDD4 (in), K2 CKE (in), K3 ^WE (in), K7 ^RAS (in), K8 ^CK (in), K9 ODT (in), L1 BA2 (io), L2 BA0 (in), L3 BA1 (in), L7 ^CAS (in), L8 ^CS (in), M2 A10/AP (in), M3 A1 (in), M7 A2 (in), M8 A0 (in), M9 VDD5 (in), N1 VSS1 (io), N2 A3 (in), N3 A5 (in), N7 A6 (in), N8 A4 (in), P2 A7 (in), P3 A9 (in), P7 A11 (in), P8 A8 (in), P9 VSS5 (io), R1 VDD3 (in), R2 A12 (in), R3 NC3 (io), R7 NC4 (io), R8 NC5 (io)

## K4T51163QC
designator U?, comment DDR2
footprint FBGA84
pins: A1 VDD, A2 NC, A3 VSS (power), A7 VSSQ (power), A8 nUDQS, A9 VDDQ (power), B1 DQ14 (io), B2 VSSQ (power), B3 UDM, B7 UDQS, B8 VSSQ (power), B9 DQ15 (io), C1 VDDQ, C2 DQ9 (io), C3 VDDQ, C7 VDDQ, C8 DQ8 (io), C9 VDDQ, D1 DQ12 (io), D2 VSSQ (power), D3 DQ11 (io), D7 DQ10 (io), D8 VSSQ (power), D9 DQ13 (io), E1 VDD, E2 NC, E3 VSS (power), E7 VSSQ (power), E8 nLDQS, E9 VDDQ (power), F1 DQ6 (io), F2 VSSQ (power), F3 LDM, F7 LDQS, F8 VSSQ (power), F9 DQ7 (io), G1 VDDQ, G2 DQ1 (io), G3 VDDQ (power), G7 VDDQ (power), G8 DQ0 (io), G9 VDDQ, H1 DQ4 (io), H2 VSSQ (power), H3 DQ3 (io), H7 DQ2 (io), H8 VSSQ (power), H9 DQ5 (io), J1 VDDL, J2 VREF, J3 VSS (power), J7 VSSDL (power), J8 CK, J9 VDD, K2 CKE, K3 nWE, K7 nRAS, K8 nCK, K9 ODT, L1 NC, L2 BA0, L3 BA1, L7 nCAS, L8 nCS, M2 A10/AP, M3 A1, M7 A2, M8 A0, M9 VDD (power), N1 VSS (power), N2 A3, N3 A5, N7 A6, N8 A4, P2 A7, P3 A9, P7 A11, P8 A8, P9 VSS (power), R1 VDD (power), R2 A12, R3 NC, R7 NC, R8 NC

## K4X51163PC-LGC3
designator U?
pins: A1 VSS, A2 DQ15, A3 VSSQ, A7 VDDQ, A8 DQ0, A9 VDD, B1 VDDQ, B2 DQ13, B3 DQ14, B7 DQ1, B8 DQ2, B9 VSSQ, C1 VSSQ, C2 DQ11, C3 DQ12, C7 DQ3, C8 DQ4, C9 VDDQ, D1 VDDQ, D2 DQ9, D3 DQ10, D7 DQ5, D8 DQ6, D9 VSSQ, E1 VSSQ, E2 UDQS, E3 DQ8, E7 DQ7, E8 LDQS, E9 VDDQ, F1 VSS, F2 UDM, F3 A14/NC, F7 A13/NC, F8 LDM, F9 VDD, G1 CKE, G2 CK, G3 nCK, G7 nWE, G8 nCAS, G9 nRAS, H1 A9, H2 A11, H3 A12, H7 nCS, H8 BA0, H9 BA1, J1 A6, J2 A7, J3 A8, J7 A10/AP, J8 A0, J9 A1, K1 VSS, K2 A4, K3 A5, K7 A2, K8 A3, K9 VDD

## K9G8G08U0B
designator U10
pins: 1 N.C0, 2 N.C1, 3 N.C2, 4 N.C3, 5 N.C4, 6 R/~{B}2, 7 R/~{B}1 (oc), 8 ~{RE} (in), 9 ~{CE}1 (in), 10 ~{CE}2, 11 N.C5, 12 VCC1 (power), 13 VSS1 (power), 14 N.C6, 15 N.C7, 16 CLE (in), 17 ALE (in), 18 ~{WE} (in), 19 ~{WP} (in), 20 N.C8, 21 N.C9, 22 N.C10, 23 N.C11, 24 N.C12, 25 N.C13, 26 N.C14, 27 N.C15, 28 N.C16, 29 I/O0 (hiz), 30 I/O1 (hiz), 31 I/O2 (hiz), 32 I/O3 (hiz), 33 N.C17, 34 N.C18, 35 N.C19, 36 VSS (power), 37 VCC (power), 38 N.C20, 39 N.C21, 40 N.C22, 41 I/O4 (hiz), 42 I/O5 (hiz), 43 I/O6 (hiz), 44 I/O7 (hiz), 45 N.C23, 46 N.C24, 47 N.C25, 48 N.C26

## K9K8G08U0A
designator U?
pins: 1 N.C, 2 N.C, 3 N.C, 4 N.C, 5 N.C, 6 N.C, 7 R/nB, 8 nRE, 9 nCE, 10 N.C, 11 N.C, 12 Vcc, 13 Vss, 14 N.C, 15 N.C, 16 CLE, 17 ALE, 18 nWE, 19 nWP, 20 N.C, 21 N.C, 22 N.C, 23 N.C, 24 N.C, 25 N.C, 26 N.C, 27 N.C, 28 N.C, 29 I/O0, 30 I/O1, 31 I/O2, 32 I/O3, 33 N.C, 34 N.C, 35 N.C, 36 Vss, 37 Vcc, 38 N.C, 39 N.C, 40 N.C, 41 I/O4, 42 I/O5, 43 I/O6, 44 I/O7, 45 N.C, 46 N.C, 47 N.C, 48 N.C

## L7805CD2T
designator U?
pins: 1 IN, 2 GND, 3 OUT

## LED-BI
designator D?
pins: 1, 2, 3, 4

## LED_2
designator D?
pins: 1, 2, 3, 4

## LED_3
designator D?
pins: 1, 2, 3, 4, 5, 6

## Li-2Cell
designator P?
pins: 1, 2, 3

## LM386M-1
designator U?
Low Voltage Audio Power Amplifier; Manufacturer: National Semiconductor; CompType: Audio IC; PackageTopMarking: NSZXTT*LM386*M-1; Published: 27-Nov-2008; DatasheetVersion: Aug-2000; PackageVersion: revL, Sep-2006; PackageReference: M08A; PackageDescription: SOIC Narrow, 4.9 x 3.9 x 1.45mm, 8 Lead, 1.27mm Pitch; PartNumber: LM386M-1; RoHS: O; PinCount: 8; DigiKeyPartNumber: LM386M-1-ND; Code_JEDEC: MS-012-AA; Code_IPC: SOIC127P600-8; ComponentLink1Description: LM386 Datasheet; ComponentLink1URL: http://www.national.com/ds/LM/LM386.pdf; ComponentLink2Description: LM386 Web Page; ComponentLink2URL: http://www.national.com/pf/LM/LM386.html; ComponentLink3Description: M08A Package Page; ComponentLink3URL: http://www.national.com/packaging/folders/m08a.html
footprint M08A_N (SOIC, 8-Leads, Body 4.9x3.9mm, Pitch 1.27mm, IPC Medium Density)
footprint M08A_L (SOIC, 8-Leads, Body 4.9x3.9mm, Pitch 1.27mm, IPC High Density)
footprint M08A_M (SOIC, 8-Leads, Body 4.9x3.9mm, Pitch 1.27mm, IPC Low Density)
pins: 1 GAIN, 2 IN- (in), 3 IN+ (in), 4 GND (power), 5 VOUT (out), 6 VS (power), 7 BYPASS, 8 GAIN

## LM2576S-5.0
designator U?
SIMPLE SWITCHER; 3A Step-Down Voltage Regulator; Manufacturer: National Semiconductor; PackageTopMarking: NSUZXYTT*LM2576S*-5.0 P+; Published: 27-Nov-2008; DatasheetVersion: Aug-2004; PackageVersion: revD, Apr-2005; PackageReference: TS5B; Publisher: Altium Limited; PackageDescription: TO-263, Molded, .400 x .390 x .180in, 5 Lead, .067in Pitch, Surface Mount; CompType: Switcher; PartNumber: LM2576S-5.0; RoHS: O; PinCount: 5; DigiKeyPartNumber: LM2576S-5.0-ND; Code_JEDEC: MO-169-AB; ComponentLink1Description: LM2576 Datasheet; ComponentLink1URL: http://www.national.com/ds/LM/LM2576.pdf; ComponentLink2Description: LM2576 Web Page; ComponentLink2URL: http://www.national.com/pf/LM/LM2576.html; ComponentLink3Description: TS5B Package Page; ComponentLink3URL: http://www.national.com/packaging/folders/ts5b.html
footprint TS5B_N (D2-PAK, 6-Leads, Body 8.6x10.2mm, Pitch 1.7mm, Lead Span 14.1mm, IPC Medium Density)
footprint TS5B_L (D2-PAK, 6-Leads, Body 8.6x10.2mm, Pitch 1.7mm, Lead Span 14.1mm, IPC High Density)
footprint TS5B_M (D2-PAK, 6-Leads, Body 8.6x10.2mm, Pitch 1.7mm, Lead Span 14.1mm, IPC Low Density)
footprint TS5B_M (D2-PAK, 6-Leads, Body 8.6x10.2mm, Pitch 1.7mm, Lead Span 14.1mm, IPC Low Density)
pins: 1 VIN (power), 2 OUT (power), 3 GND (power), 4 FB (in), 5 ~{ON}/OFF (in), 6 TAB (power)

## LM2577S-ADJ
designator U?
SIMPLE SWITCHER?Step-Up Voltage Regulator, 5-pin TO-263; Manufacturer: National Semiconductor; PackageTopMarking: NSUZXYTTE#*LM2577S*-ADJ P+; PowerWise: N; Published: 4-Dec-2008; DatasheetVersion: Apr-2005; PackageVersion: revD, Apr-2005; PackageReference: TS5B; Publisher: Altium Limited; PackageDescription: TO-263, Molded, .400 x .390 x .180in, 5 Lead, .067in Pitch, Surface Mount; Supplier 1: Farnell; Supplier Part Number 1: 952382; PartNumber: LM2577S-ADJ; RoHS: N; PinCount: 5; CompType: Switcher; Code_JEDEC: MO-169-AB; ComponentLink1Description: LM2577 Datasheet; ComponentLink1URL: http://www.national.com/ds/LM/LM2577.pdf; ComponentLink2Description: LM2577 Web Page; ComponentLink2URL: http://www.national.com/pf/LM/LM2577.html; ComponentLink3Description: TS5B Package Page; ComponentLink3URL: http://www.national.com/packaging/folders/ts5b.html
footprint TO-263-6 (D2-PAK, 6-Leads, Body 8.6x10.2mm, Pitch 1.7mm, Lead Span 14.1mm, IPC Medium Density)
footprint TS5B_L (D2-PAK, 6-Leads, Body 8.6x10.2mm, Pitch 1.7mm, Lead Span 14.1mm, IPC High Density)
footprint TS5B_M (D2-PAK, 6-Leads, Body 8.6x10.2mm, Pitch 1.7mm, Lead Span 14.1mm, IPC Low Density)
pins: 1 COMP, 2 FB (in), 3 GND (power), 4 SW (power), 5 VIN (power), 6 TAB (power)

## LM2596S-5.0
designator U?
SIMPLE SWITCHER; 3A Step-Down Voltage Regulator; PartNumber: LM2576S-5.0; Manufacturer: National Semiconductor; PackageTopMarking: NSUZXYTT*LM2576S*-5.0 P+; Published: 27-Nov-2008; DatasheetVersion: Aug-2004; PackageVersion: revD, Apr-2005; PackageReference: TS5B; Publisher: Altium Limited; PackageDescription: TO-263, Molded, .400 x .390 x .180in, 5 Lead, .067in Pitch, Surface Mount; CompType: Switcher; RoHS: O; PinCount: 5; DigiKeyPartNumber: LM2576S-5.0-ND; Code_JEDEC: MO-169-AB; ComponentLink1Description: LM2576 Datasheet; ComponentLink1URL: http://www.national.com/ds/LM/LM2576.pdf; ComponentLink2Description: LM2576 Web Page; ComponentLink2URL: http://www.national.com/pf/LM/LM2576.html; ComponentLink3Description: TS5B Package Page; ComponentLink3URL: http://www.national.com/packaging/folders/ts5b.html
footprint TS5B_N (D2-PAK, 6-Leads, Body 8.6x10.2mm, Pitch 1.7mm, Lead Span 14.1mm, IPC Medium Density)
footprint TS5B_L (D2-PAK, 6-Leads, Body 8.6x10.2mm, Pitch 1.7mm, Lead Span 14.1mm, IPC High Density)
footprint TS5B_M (D2-PAK, 6-Leads, Body 8.6x10.2mm, Pitch 1.7mm, Lead Span 14.1mm, IPC Low Density)
footprint TS5B_M (D2-PAK, 6-Leads, Body 8.6x10.2mm, Pitch 1.7mm, Lead Span 14.1mm, IPC Low Density)
pins: 1 VIN (power), 2 OUT (power), 3 GND (power), 4 FB (in), 5 ~{ON}/OFF (in), 6 TAB (power)

## LM2678S-5.0
designator U?
SIMPLE SWITCHER; High Efficiency 5A Step-Down Voltage Regulator; Manufacturer: National Semiconductor; PackageTopMarking: NSUZXYTT*LM2678*S-5.0; Published: 27-Nov-2008; DatasheetVersion: May-2008; PackageVersion: revE, Jul-2003; PackageReference: TS7B; Publisher: Altium Limited; PackageDescription: TO-263, Molded, .400 x .390 x .180in Body, 7 Lead, .050in Pitch, Surface Mount; CompType: Switcher; PartNumber: LM2678S-5.0; RoHS: O; PinCount: 7; DigiKeyPartNumber: LM2678S-5.0-ND; Code_JEDEC: MO-169-AC; ComponentLink1Description: LM2678 Datasheet; ComponentLink1URL: http://www.national.com/ds/LM/LM2678.pdf; ComponentLink2Description: LM2678 Web Page; ComponentLink2URL: http://www.national.com/pf/LM/LM2678.html; ComponentLink3Description: TS7B Package Page; ComponentLink3URL: http://www.national.com/packaging/folders/ts7b.html
footprint TS7B_N (D2-PAK, 8-Leads, Body 8.6x10.2mm, Pitch 1.27mm, Lead Span 14.1mm, IPC Medium Density)
footprint TS7B_L (D2-PAK, 8-Leads, Body 8.6x10.2mm, Pitch 1.27mm, Lead Span 14.1mm, IPC High Density)
footprint TS7B_M (D2-PAK, 8-Leads, Body 8.6x10.2mm, Pitch 1.27mm, Lead Span 14.1mm, IPC Low Density)
footprint TS7B_M (D2-PAK, 8-Leads, Body 8.6x10.2mm, Pitch 1.27mm, Lead Span 14.1mm, IPC Low Density)
pins: 1 VSW (power), 2 VIN (power), 3 CB, 4 GND (power), 5 NC, 6 FB (in), 7 ON/~{OFF} (in), 8 TAB (power)

## LM2941S
designator U?
1A Low Dropout Adjustable Regulator, 5-pin TO-263; Manufacturer: National Semiconductor; PackageTopMarking: NSUZXYTTE#*LM2941S*P+; PowerWise: N; CompType: LDO IC; Published: 4-Dec-2008; DatasheetVersion: Nov-2007; PackageVersion: revD, Apr-2005; PackageReference: TS5B; Publisher: Altium Limited; PackageDescription: TO-263, Molded, .400 x .390 x .180in, 5 Lead, .067in Pitch, Surface Mount; Supplier 1: Farnell; Supplier Part Number 1: 9494456; PartNumber: LM2941S; RoHS: N; PinCount: 5; Code_JEDEC: MO-169-AB; ComponentLink1Description: LM2941 Datasheet; ComponentLink1URL: http://www.national.com/ds/LM/LM2941.pdf; ComponentLink2Description: LM2941 Web Page; ComponentLink2URL: http://www.national.com/pf/LM/LM2941.html; ComponentLink3Description: TS5B Package Page; ComponentLink3URL: http://www.national.com/packaging/folders/ts5b.html
footprint TS5B_N (D2-PAK, 6-Leads, Body 8.6x10.2mm, Pitch 1.7mm, Lead Span 14.1mm, IPC Medium Density)
footprint TS5B_L (D2-PAK, 6-Leads, Body 8.6x10.2mm, Pitch 1.7mm, Lead Span 14.1mm, IPC High Density)
footprint TS5B_M (D2-PAK, 6-Leads, Body 8.6x10.2mm, Pitch 1.7mm, Lead Span 14.1mm, IPC Low Density)
pins: 1 ADJ (in), 2 ON/OFF (in), 3 GND (power), 4 IN (power), 5 OUT (power), 6 TAB (power)

## LM4040-2.5
designator U?
Precision Micropower Shunt Voltage Reference, 3-pin SOT-23; PartNumber: LM4040AIM3X-2.5; Manufacturer: National Semiconductor; PackageTopMarking: R2A*XTT; PowerWise: N; CompType: Voltage Reference IC; Published: 1-Mar-2010; DatasheetVersion: Apr-2005; PackageVersion: revB, Mar-2003; PackageReference: MF03A; Publisher: Altium Limited; PackageDescription: Molded SOT-23, .115 x .051 x .037in Body, 3 Lead, .075 in Pitch; RoHS: N; PinCount: 3; ComponentLink1Description: LM4040 Datasheet; ComponentLink1URL: http://www.national.com/ds/LM/LM4040.pdf; ComponentLink2Description: LM4040 Web Page; ComponentLink2URL: http://www.national.com/pf/LM/LM4040.html; ComponentLink3Description: MF03A Package Page; ComponentLink3URL: http://www.national.com/packaging/folders/mf03a.html
footprint MF03A_N (SOT23, 3-Leads, Body 2.9x1.3mm, Pitch 0.95mm, Lead Span 2.4mm, IPC Medium Density)
footprint MF03A_L (SOT23, 3-Leads, Body 2.9x1.3mm, Pitch 0.95mm, Lead Span 2.4mm, IPC High Density)
footprint MF03A_M (SOT23, 3-Leads, Body 2.9x1.3mm, Pitch 0.95mm, Lead Span 2.4mm, IPC Low Density)
pins: 1 +V, 2 -V, 3 NC

## LP2951
designator U?
pins: 1 VOUT, 2 SENSE, 3 SD, 4 GND, 5 ERROR, 6 VTAP, 7 FB, 8 VIN

## LP3878MRX-ADJ
designator U?
Micropower 800mA Low Noise "Ceramic Stable" Adjustable Voltage Regulator for 1V to 5V Applications, 8-pin PSOP; Manufacturer: National Semiconductor; PackageTopMarking: NSXYTT*3878*MRADJ; PowerWise: N; CompType: LDO IC; Published: 1-Mar-2010; DatasheetVersion: May-2005; PackageVersion: revD, Dec-2007; PackageReference: MRA08A; Publisher: Altium Limited; PackageDescription: Molded, PSOP .193 x .154 x .058in, 8 Lead, .050in Pitch; PartNumber: LP3878MRX-ADJ; RoHS: N; PinCount: 8; Code_JEDEC: MS-012-AA; ComponentLink1Description: LP3878-ADJ Datasheet; ComponentLink1URL: http://www.national.com/ds/LP/LP3878-ADJ.pdf; ComponentLink2Description: LP3878-ADJ Web Page; ComponentLink2URL: http://www.national.com/pf/LP/LP3878-ADJ.html; ComponentLink3Description: MRA08A Package Page; ComponentLink3URL: http://www.national.com/packaging/folders/mra08a.html
footprint MRA08A_N (SOIC, 8-Leads, Body 4.9x3.9mm, Pitch 1.27mm, Exposed Pad, IPC Medium Density)
footprint MRA08A_L (SOIC, 8-Leads, Body 4.9x3.9mm, Pitch 1.27mm, Exposed Pad, IPC High Density)
footprint MRA08A_M (SOIC, 8-Leads, Body 4.9x3.9mm, Pitch 1.27mm, Exposed Pad, IPC Low Density)
pins: 1 BYP, 2 NC, 3 GND (power), 4 IN (power), 5 OUT (power), 6 ADJ (in), 7 NC, 8 ~{SD} (in), 9 DAP (power)

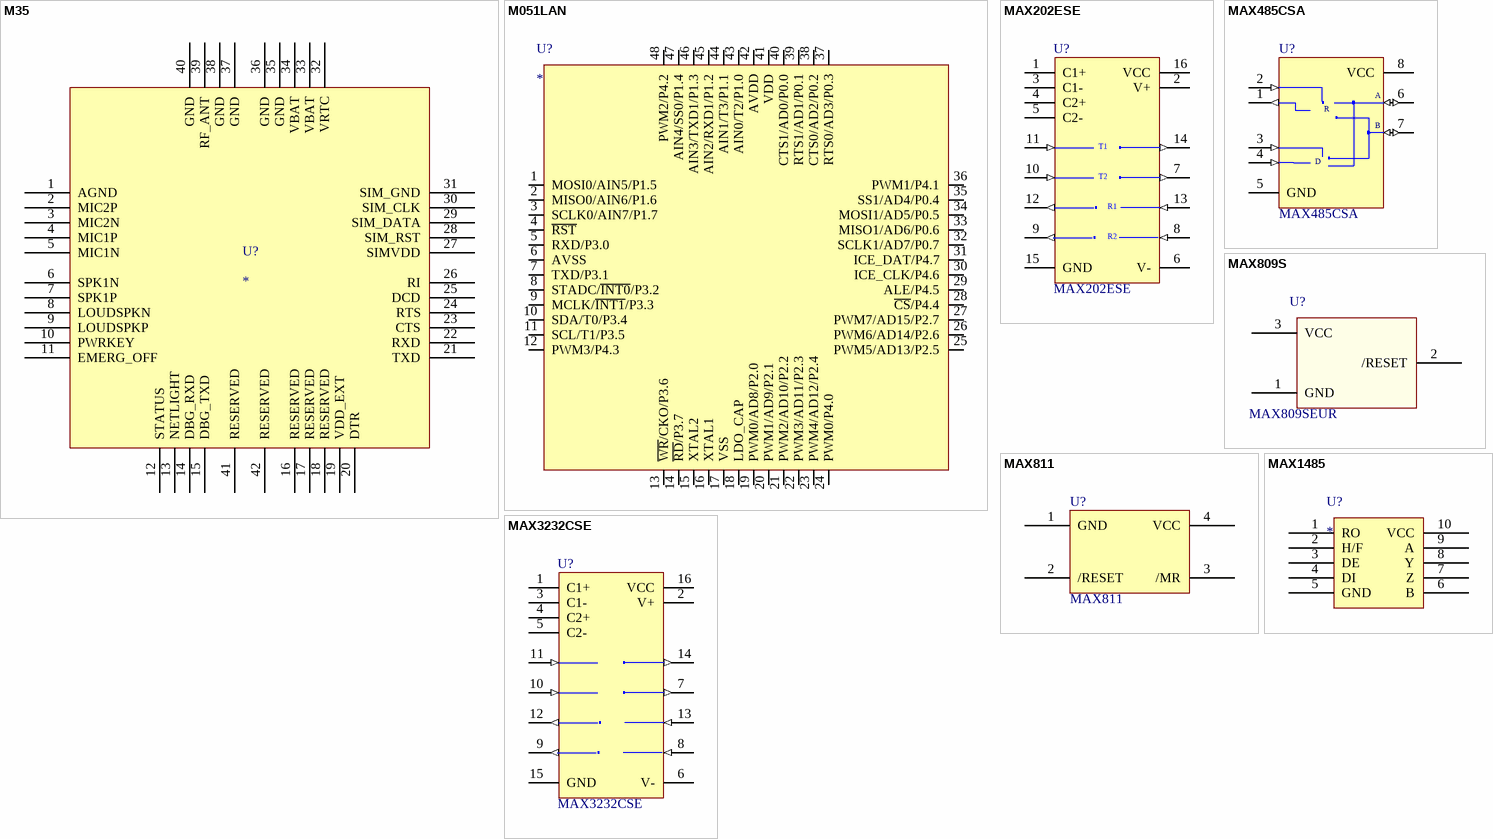
[diagram p10: symbols M35 to MAX3232CSE]

## M35
designator U?
pins: 1 AGND, 2 MIC2P, 3 MIC2N, 4 MIC1P, 5 MIC1N, 6 SPK1N, 7 SPK1P, 8 LOUDSPKN, 9 LOUDSPKP, 10 PWRKEY, 11 EMERG_OFF, 12 STATUS, 13 NETLIGHT, 14 DBG_RXD, 15 DBG_TXD, 16 RESERVED, 17 RESERVED, 18 RESERVED, 19 VDD_EXT, 20 DTR, 21 TXD, 22 RXD, 23 CTS, 24 RTS, 25 DCD, 26 RI, 27 SIMVDD, 28 SIM_RST, 29 SIM_DATA, 30 SIM_CLK, 31 SIM_GND, 32 VRTC, 33 VBAT, 34 VBAT, 35 GND, 36 GND, 37 GND, 38 GND, 39 RF_ANT, 40 GND, 41 RESERVED, 42 RESERVED

## M051LAN
designator U?
pins: 1 MOSI0/AIN5/P1.5, 2 MISO0/AIN6/P1.6, 3 SCLK0/AIN7/P1.7, 4 ~{RST}, 5 RXD/P3.0, 6 AVSS, 7 TXD/P3.1, 8 STADC/~{INT0}/P3.2, 9 MCLK/~{INT1}/P3.3, 10 SDA/T0/P3.4, 11 SCL/T1/P3.5, 12 PWM3/P4.3, 13 ~{WR}/CKO/P3.6, 14 ~{RD}/P3.7, 15 XTAL2, 16 XTAL1, 17 VSS, 18 LDO_CAP, 19 PWM0/AD8/P2.0, 20 PWM1/AD9/P2.1, 21 PWM2/AD10/P2.2, 22 PWM3/AD11/P2.3, 23 PWM4/AD12/P2.4, 24 PWM0/P4.0, 25 PWM5/AD13/P2.5, 26 PWM6/AD14/P2.6, 27 PWM7/AD15/P2.7, 28 ~{CS}/P4.4, 29 ALE/P4.5, 30 ICE_CLK/P4.6, 31 ICE_DAT/P4.7, 32 SCLK1/AD7/P0.7, 33 MISO1/AD6/P0.6, 34 MOSI1/AD5/P0.5, 35 SS1/AD4/P0.4, 36 PWM1/P4.1, 37 RTS0/AD3/P0.3, 38 CTS0/AD2/P0.2, 39 RTS1/AD1/P0.1, 40 CTS1/AD0/P0.0, 41 VDD, 42 AVDD, 43 AIN0/T2/P1.0, 44 AIN1/T3/P1.1, 45 AIN2/RXD1/P1.2, 46 AIN3/TXD1/P1.3, 47 AIN4/SS0/P1.4, 48 PWM2/P4.2

## MAX202ESE
designator U?
+5V RS-232 Transceiver with 0.1礔 External Capacitor; Published: 16-Jan-2001; LatestRevisionDate: 13-Apr-2006; LatestRevisionNote: IPC-7351 Footprint Added.; DatasheetVersion: Dec-1996; PackageReference: NSO16; Publisher: Altium Limited; PackageDescription: 16-Pin Small Outline Integrated Circuit 1.27 mm Pitch; Code_JEDEC: MS-012-AC; Code_IPC: SOIC127P600-16; ComponentLink1Description: Manufacturer Link; ComponentLink1URL: http://www.maxim-ic.com/; ComponentLink2Description: Datasheet; ComponentLink2URL: http://pdfserv.maxim-ic.com/en/ds/MAX200-MAX213.pdf
footprint NSO16_N (SOIC, 16-Leads, Body 9.9x3.9mm, Pitch 1.27mm, IPC Medium Density)
footprint NSO16_L (SOIC, 16-Leads, Body 9.9x3.9mm, Pitch 1.27mm, IPC High Density)
footprint NSO16_M (SOIC, 16-Leads, Body 9.9x3.9mm, Pitch 1.27mm, IPC Low Density)
3D model NSO16 (16-Pin Small Outline Integrated Circuit 1.27 mm Pitch)
pins: 1 C1+, 2 V+ (power), 3 C1-, 4 C2+, 5 C2-, 6 V- (power), 7 T2OUT (out), 8 R2IN (in), 9 R2OUT (out), 10 T2IN (in), 11 T1IN (in), 12 R1OUT (out), 13 R1IN (in), 14 T1OUT (out), 15 GND (power), 16 VCC (power)
text: T1; T2; R1; R2

## MAX485CSA
designator U?
Low-Power, Slew-Rate-Limited RS-485/RS-422 Transceiver; Published: 16-Jan-2001; LatestRevisionDate: 13-Apr-2006; LatestRevisionNote: IPC-7351 Footprint Added.; DatasheetVersion: Feb-1996; PackageReference: NSO8; Publisher: Altium Limited; PackageDescription: 8-Pin Small Outline Integrated Circuit 1.27 mm Pitch; Code_JEDEC: MS-012-AA; Code_IPC: SOIC127P600-8; ComponentLink1Description: Manufacturer Link; ComponentLink1URL: http://www.maxim-ic.com/; ComponentLink2Description: Datasheet; ComponentLink2URL: http://pdfserv.maxim-ic.com/en/ds/MAX1487-MAX491.pdf
footprint NSO8_N (SOIC, 8-Leads, Body 4.9x3.9mm, Pitch 1.27mm, IPC Medium Density)
footprint NSO8_L (SOIC, 8-Leads, Body 4.9x3.9mm, Pitch 1.27mm, IPC High Density)
footprint NSO8_M (SOIC, 8-Leads, Body 4.9x3.9mm, Pitch 1.27mm, IPC Low Density)
3D model NSO8 (8-Pin Small Outline Integrated Circuit 1.27 mm Pitch)
pins: 1 RO (out), 2 ~{RE} (in), 3 DE (in), 4 DI (in), 5 GND (power), 6 A (io), 7 B (io), 8 VCC (power)
text: R; D

## MAX809S
designator U?, comment value MAX809SEUR  (hidden comment: Rest Circuit IC)
pins: 1 GND, 2 /RESET, 3 VCC

## MAX811
designator U?
pins: 1 GND, 2 /RESET, 3 /MR, 4 VCC

## MAX1485
designator U?
pins: 1 RO, 2 H/F, 3 DE, 4 DI, 5 GND, 6 B, 7 Z, 8 Y, 9 A, 10 VCC

## MAX3232CSE
designator U?
3.0V TO 5.5V, Low-Power, up to 1Mbps, True RS-232 Transceiver Using Four 0.1礔 External Capacitor; Published: 16-Jan-2001; LatestRevisionDate: 13-Apr-2006; LatestRevisionNote: IPC-7351 Footprint Added.; DatasheetVersion: Mar-1999; PackageReference: NSO16; Publisher: Altium Limited; PackageDescription: 16-Pin Small Outline Integrated Circuit 1.27 mm Pitch; Code_JEDEC: MS-012-AC; Code_IPC: SOIC127P600-16; ComponentLink1Description: Manufacturer Link; ComponentLink1URL: http://www.maxim-ic.com/; ComponentLink2Description: Datasheet; ComponentLink2URL: http://pdfserv.maxim-ic.com/en/ds/MAX3222-MAX3241.pdf
footprint NSO16_N (SOIC, 16-Leads, Body 9.9x3.9mm, Pitch 1.27mm, IPC Medium Density)
footprint NSO16_L (SOIC, 16-Leads, Body 9.9x3.9mm, Pitch 1.27mm, IPC High Density)
footprint NSO16_M (SOIC, 16-Leads, Body 9.9x3.9mm, Pitch 1.27mm, IPC Low Density)
3D model NSO16 (16-Pin Small Outline Integrated Circuit 1.27 mm Pitch)
pins: 1 C1+, 2 V+ (power), 3 C1-, 4 C2+, 5 C2-, 6 V- (power), 7 T2OUT (out), 8 R2IN (in), 9 R2OUT (out), 10 T2IN (in), 11 T1IN (in), 12 R1OUT (out), 13 R1IN (in), 14 T1OUT (out), 15 GND (power), 16 VCC (power)

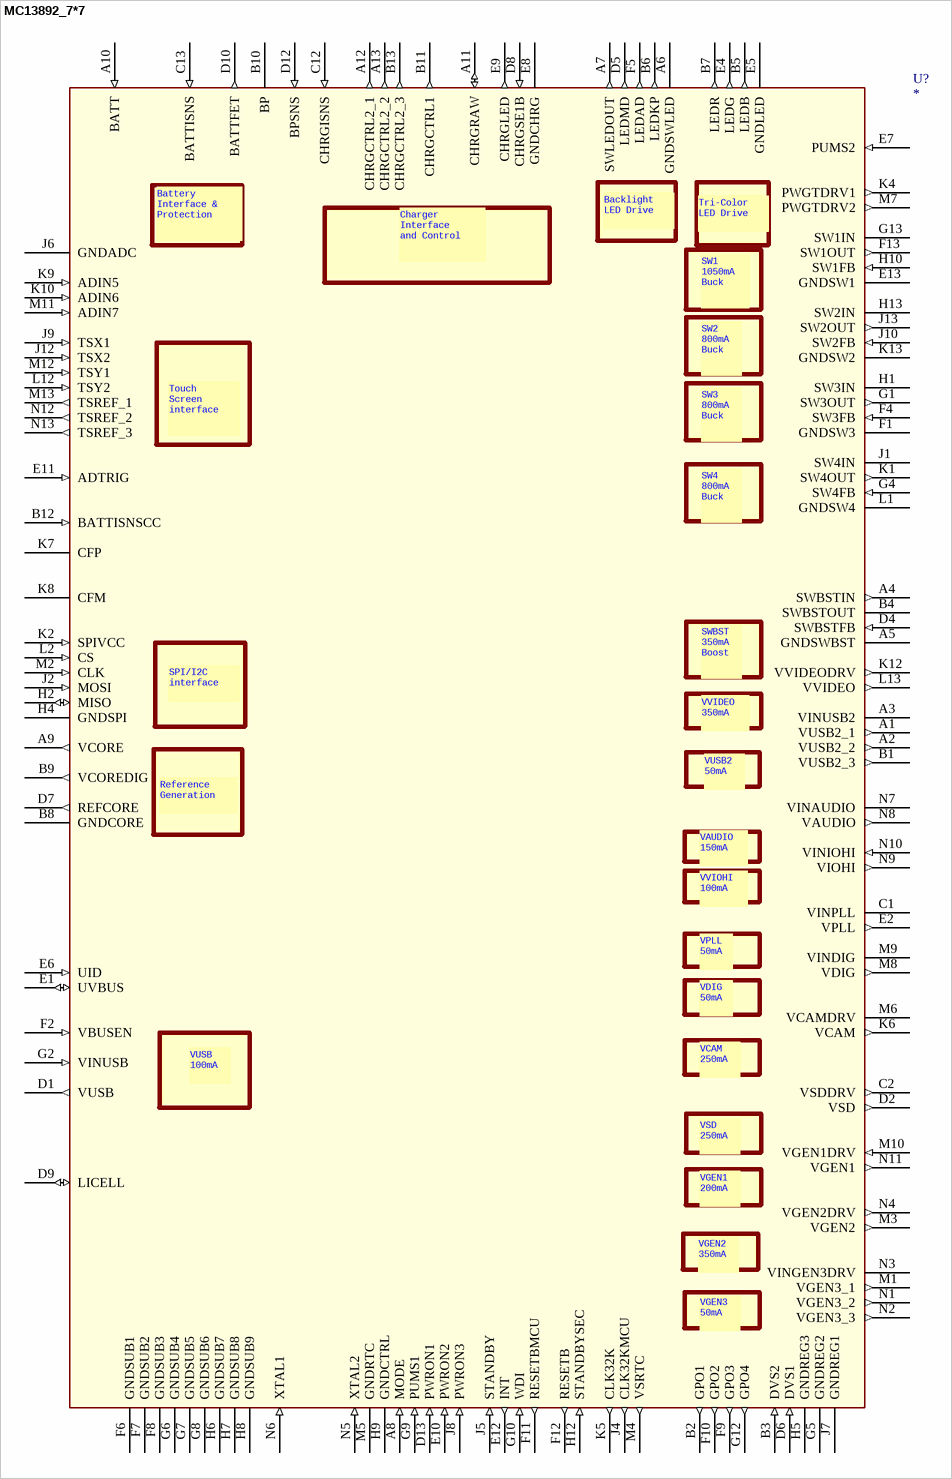
[diagram p11: symbol MC13892_7*7]

## MC13892_7*7
designator U?
pins: A1 VUSB2_1 (out), A2 VUSB2_2 (out), A3 VINUSB2 (power), A4 SWBSTIN (out), A5 GNDSWBST (power), A6 GNDSWLED (power), A7 SWLEDOUT (out), A8 MODE (in), A9 VCORE (out), A10 BATT (in), A11 CHRGRAW (io), A12 CHRGCTRL2_1 (out), A13 CHRGCTRL2_2 (out), B1 VUSB2_3 (out), B2 GPO1 (out), B3 DVS2 (in), B4 SWBSTOUT (power), B5 LEDB (out), B6 LEDKP (out), B7 LEDR (out), B8 GNDCORE (power), B9 VCOREDIG (out), B10 BP (power), B11 CHRGCTRL1 (out), B12 BATTISNSCC (in), B13 CHRGCTRL2_3 (out), C1 VINPLL (power), C2 VSDDRV (out), C12 CHRGISNS (in), C13 BATTISNS (in), D1 VUSB (out), D2 VSD (out), D4 SWBSTFB (in), D5 LEDMD (out), D6 DVS1 (in), D7 REFCORE (out), D8 CHRGSE1B (in), D9 LICELL (io), D10 BATTFET (out), D12 BPSNS (in), D13 PWRON1 (in), E1 UVBUS (io), E2 VPLL (out), E4 LEDG (out), E5 GNDLED (power), E6 UID (in), E7 PUMS2 (in), E8 GNDCHRG (power), E9 CHRGLED (out), E10 PWRON2 (in), E11 ADTRIG (in), E12 INT (out), E13 GNDSW1 (power), F1 GNDSW3 (power), F2 VBUSEN (in), F4 SW3FB (in), F5 LEDAD (out), F6 GNDSUB1 (power), F7 GNDSUB2 (power), F8 GNDSUB3 (power), F9 GPO3 (out), F10 GPO2 (out), F11 RESETBMCU (out), F12 RESETB (out), F13 SW1OUT (out), G1 SW3OUT (out), G2 VINUSB (in), G4 SW4FB (in), G5 GNDREG2 (power), G6 GNDSUB4 (power), G7 GNDSUB5 (power), G8 GNDSUB6 (power), G9 PUMS1 (in), G10 WDI (in), G12 GPO4 (out), G13 SW1IN (power), H1 SW3IN (power), H2 MISO (io), H4 GNDSPI (power), H5 GNDREG3 (power), H6 GNDSUB7 (power), H7 GNDSUB8 (power), H8 GNDSUB9 (power), H9 GNDCTRL (power), H10 SW1FB (in), H12 STANDBYSEC (in), H13 SW2IN (power), J1 SW4IN (power), J2 MOSI (in), J4 CLK32KMCU (out), J5 STANDBY (in), J6 GNDADC (power), J7 GNDREG1 (power), J8 PWRON3 (in), J9 TSX1 (in), J10 SW2FB (in), J12 TSX2 (in), J13 SW2OUT (out), K1 SW4OUT (out), K2 SPIVCC (in), K4 PWGTDRV1 (out), K5 CLK32K (out), K6 VCAM (out), K7 CFP (power), K8 CFM (power), K9 ADIN5 (in), K10 ADIN6 (in), K12 VVIDEODRV (out), K13 GNDSW2 (power), L1 GNDSW4 (power), L2 CS (in), L12 TSY2 (in), L13 VVIDEO (out), M1 VGEN3_1 (out), M2 CLK (in), M3 VGEN2 (out), M4 VSRTC (out), M5 GNDRTC (power), M6 VCAMDRV (power), M7 PWGTDRV2 (out), M8 VDIG (out), M9 VINDIG (power), M10 VGEN1DRV (in), M11 ADIN7 (in), M12 TSY1 (in), M13 TSREF_1 (out), N1 VGEN3_2 (out), N2 VGEN3_3 (out), N3 VINGEN3DRV (power), N4 VGEN2DRV (out), N5 XTAL2 (in), N6 XTAL1 (in), N7 VINAUDIO (power), N8 VAUDIO (out), N9 VIOHI (out), N10 VINIOHI (in), N11 VGEN1 (out), N12 TSREF_2 (out), N13 TSREF_3 (out)
text: Backlight / LED Drive; Tri-Color / LED Drive; Battery / Interface & / Protection; Charger / Interface / and Control; SW1 / 1050mA / Buck; SW2 / 800mA / Buck; Touch / Screen / interface; SW3 / 800mA / Buck; SW4 / 800mA / Buck; SWBST / 350mA / Boost; SPI/I2C / interface; VVIDEO / 350mA; VUSB2 / 50mA; Reference / Generation; VAUDIO / 150mA; VVIOHI / 100mA; VPLL / 50mA; VDIG / 50mA; VCAM / 250mA; VUSB / 100mA; VSD / 250mA; VGEN1 / 200mA; VGEN2 / 350mA; VGEN3 / 50mA

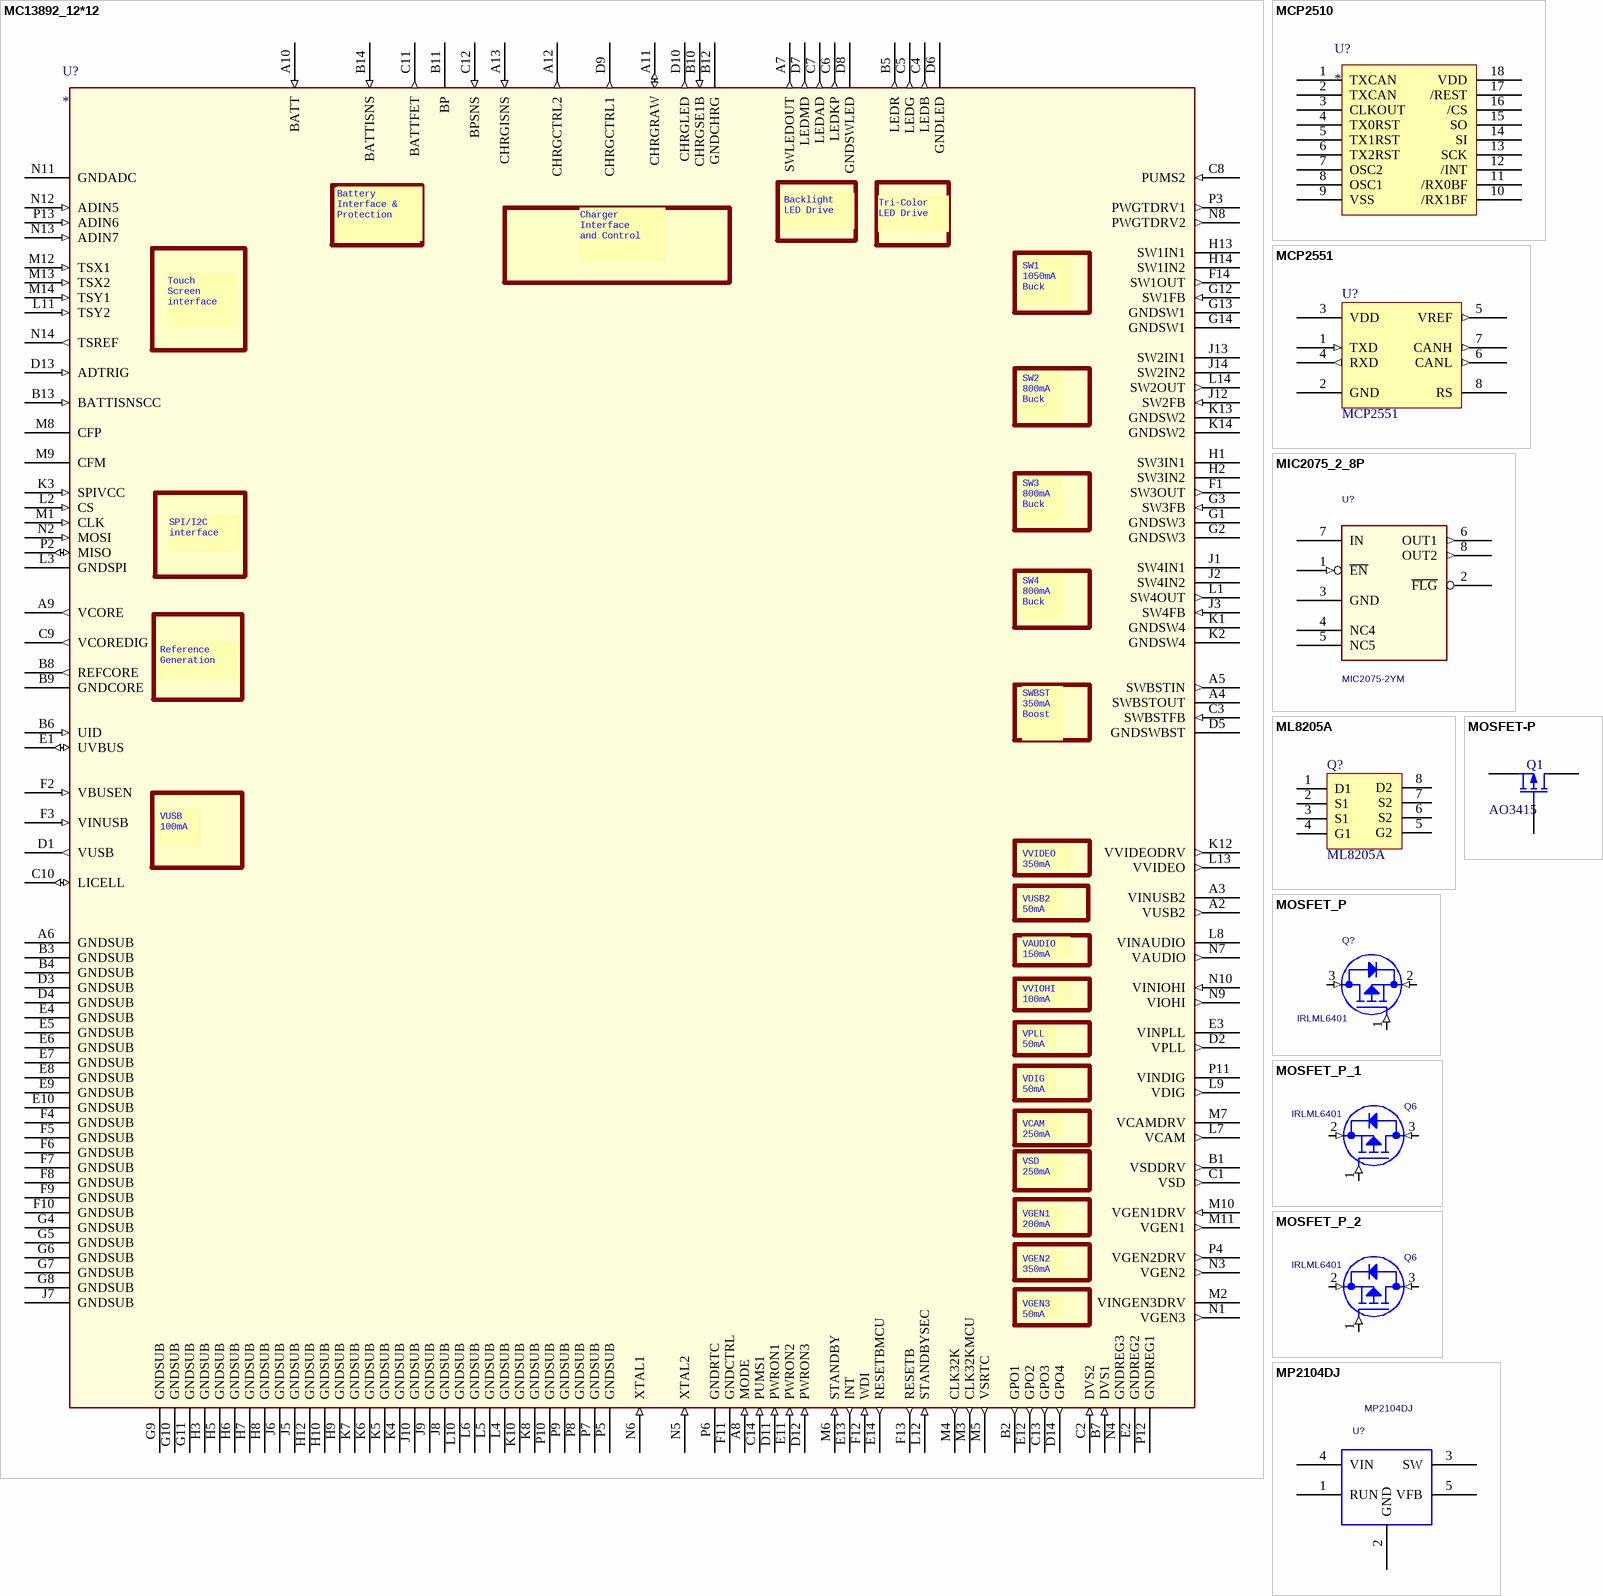
[diagram p12: symbols MC13892_12*12 to MP2104DJ]

## MC13892_12*12
designator U?
pins: A2 VUSB2 (out), A3 VINUSB2 (power), A4 SWBSTOUT (power), A5 SWBSTIN (out), A6 GNDSUB, A7 SWLEDOUT (out), A8 MODE (in), A9 VCORE (out), A10 BATT (in), A11 CHRGRAW (io), A12 CHRGCTRL2 (out), A13 CHRGISNS (in), B1 VSDDRV (out), B2 GPO1 (out), B3 GNDSUB, B4 GNDSUB, B5 LEDR (out), B6 UID (in), B7 DVS1 (in), B8 REFCORE (out), B9 GNDCORE (power), B10 CHRGSE1B (in), B11 BP (power), B12 GNDCHRG (power), B13 BATTISNSCC (in), B14 BATTISNS (in), C1 VSD (out), C2 DVS2 (in), C3 SWBSTFB (in), C4 LEDB (out), C5 LEDG (out), C6 LEDKP (out), C7 LEDAD (out), C8 PUMS2 (in), C9 VCOREDIG (out), C10 LICELL (io), C11 BATTFET (out), C12 BPSNS (in), C13 GPO3 (out), C14 PUMS1 (in), D1 VUSB (out), D2 VPLL (out), D3 GNDSUB, D4 GNDSUB, D5 GNDSWBST (power), D6 GNDLED (power), D7 LEDMD (out), D8 GNDSWLED (power), D9 CHRGCTRL1 (out), D10 CHRGLED (out), D11 PWRON1 (in), D12 PWRON3 (in), D13 ADTRIG (in), D14 GPO4 (out), E1 UVBUS (io), E2 GNDREG2 (power), E3 VINPLL (power), E4 GNDSUB, E5 GNDSUB, E6 GNDSUB, E7 GNDSUB, E8 GNDSUB, E9 GNDSUB, E10 GNDSUB, E11 PWRON2 (in), E12 GPO2 (out), E13 INT (out), E14 RESETBMCU (out), F1 SW3OUT (out), F2 VBUSEN (in), F3 VINUSB (in), F4 GNDSUB, F5 GNDSUB, F6 GNDSUB, F7 GNDSUB, F8 GNDSUB, F9 GNDSUB, F10 GNDSUB, F11 GNDCTRL (power), F12 WDI (in), F13 RESETB (out), F14 SW1OUT (out), G1 GNDSW3 (power), G2 GNDSW3 (power), G3 SW3FB (in), G4 GNDSUB, G5 GNDSUB, G6 GNDSUB, G7 GNDSUB, G8 GNDSUB, G9 GNDSUB, G10 GNDSUB, G11 GNDSUB, G12 SW1FB (in), G13 GNDSW1 (power), G14 GNDSW1 (power), H1 SW3IN1 (power), H2 SW3IN2 (power), H3 GNDSUB, H5 GNDSUB, H6 GNDSUB, H7 GNDSUB, H8 GNDSUB, H9 GNDSUB, H10 GNDSUB, H12 GNDSUB, H13 SW1IN1 (power), H14 SW1IN2 (power), J1 SW4IN1 (power), J2 SW4IN2 (power), J3 SW4FB (in), J5 GNDSUB, J6 GNDSUB, J7 GNDSUB, J8 GNDSUB, J9 GNDSUB, J10 GNDSUB, J12 SW2FB (in), J13 SW2IN1 (power), J14 SW2IN2 (power), K1 GNDSW4 (power), K2 GNDSW4 (power), K3 SPIVCC (in), K4 GNDSUB, K5 GNDSUB, K6 GNDSUB, K7 GNDSUB, K8 GNDSUB (power), K10 GNDSUB (power), K12 VVIDEODRV (out), K13 GNDSW2 (power), K14 GNDSW2 (power), L1 SW4OUT (out), L2 CS (in), L3 GNDSPI (power), L4 GNDSUB (power), L5 GNDSUB (power), L6 GNDSUB (power), L7 VCAM (out), L8 VINAUDIO (power), L9 VDIG (out), L10 GNDSUB (power), L11 TSY2 (in), L12 STANDBYSEC (in), L13 VVIDEO (out), L14 SW2OUT (out), M1 CLK (in), M2 VINGEN3DRV (power), M3 CLK32KMCU (out), M4 CLK32K (out), M5 VSRTC (out), M6 STANDBY (in), M7 VCAMDRV (power), M8 CFP (power), M9 CFM (power), M10 VGEN1DRV (in), M11 VGEN1 (out), M12 TSX1 (in), M13 TSX2 (in), M14 TSY1 (in), N1 VGEN3 (out), N2 MOSI (in), N3 VGEN2 (out), N4 GNDREG3 (power), N5 XTAL2 (in), N6 XTAL1 (in), N7 VAUDIO (out), N8 PWGTDRV2 (out), N9 VIOHI (out), N10 VINIOHI (in), N11 GNDADC (power), N12 ADIN5 (in), N13 ADIN7 (in), N14 TSREF (out), P2 MISO (io), P3 PWGTDRV1 (out), P4 VGEN2DRV (out), P5 GNDSUB (power), P6 GNDRTC (power), P7 GNDSUB (power), P8 GNDSUB (power), P9 GNDSUB (power), P10 GNDSUB (power), P11 VINDIG (power), P12 GNDREG1 (power), P13 ADIN6 (in)
text: Backlight / LED Drive; Tri-Color / LED Drive; Battery / Interface & / Protection; Charger / Interface / and Control; SW1 / 1050mA / Buck; Touch / Screen / interface; SW2 / 800mA / Buck; SW3 / 800mA / Buck; SPI/I2C / interface; SW4 / 800mA / Buck; Reference / Generation; SWBST / 350mA / Boost; VUSB / 100mA; VVIDEO / 350mA; VUSB2 / 50mA; VAUDIO / 150mA; VVIOHI / 100mA; VPLL / 50mA; VDIG / 50mA; VCAM / 250mA; VSD / 250mA; VGEN1 / 200mA; VGEN2 / 350mA; VGEN3 / 50mA

## MCP2510
designator U?
pins: 1 TXCAN, 2 TXCAN, 3 CLKOUT, 4 TX0RST, 5 TX1RST, 6 TX2RST, 7 OSC2, 8 OSC1, 9 VSS, 10 /RX1BF, 11 /RX0BF, 12 /INT, 13 SCK, 14 SI, 15 SO, 16 /CS, 17 /REST, 18 VDD

## MCP2551
designator U?
High Speed Can Transceiver; Published: 6-Oct-2005; LatestRevisionDate: 13-Apr-2006; LatestRevisionNote: IPC-7351 Footprint Added.; DatasheetVersion: Nov-2003; PackageVersion: Oct-2005; PackageReference: SOIC150-8; Publisher: Altium Limited; PackageDescription: 8-Pin Plastic Narrow Body Small Outline Integrated Circuit 1.27 mm Pitch; Code_JEDEC: MS-012; ComponentLink1Description: Manufacturer Link; ComponentLink1URL: http://www.microchip.com; ComponentLink2Description: Datasheet; ComponentLink2URL: http://ww1.microchip.com/downloads/en/DeviceDoc/21667d.pdf
footprint SOIC150-8_N (SOIC, 8-Leads, Body 4.9x3.8mm, Pitch 1.27mm, IPC Medium Density)
footprint SOIC150-8_L (SOIC, 8-Leads, Body 4.9x3.8mm, Pitch 1.27mm, IPC High Density)
footprint SOIC150-8_M (SOIC, 8-Leads, Body 4.9x3.8mm, Pitch 1.27mm, IPC Low Density)
pins: 1 TXD (in) "Screw Terminal", 2 GND (power), 3 VDD (power) "Positive Supply 4.5V to 5.5V", 4 RXD (out) "Receive Data", 5 VREF (out) "Reference Voltage", 6 CANL (out) "CAN Bus Low Line", 7 CANH (out) "CAN Bus High Line", 8 RS "Mode/Slope Setting"

## MIC2075_2_8P
designator U?, comment MIC2075-2YM
IC,PWR DISTRIBUTION SW,500MA,8 PIN,SOIC; CAD_APPROVED: Yes; MFG_NAME01: MICREL; AGILE_PN: 315-75405; HEIGHT: 1.73 MM; ROHS: Yes; MFG_PN01: MIC2075-2YM
pins: 1 ~{EN} (in), 2 ~{FLG} (oc), 3 GND (power), 4 NC4, 5 NC5, 6 OUT1 (out), 7 IN (power), 8 OUT2 (out)

## ML8205A
designator Q?
pins: 1 D1, 2 S1, 3 S1, 4 G1, 5 G2, 6 S2, 7 S2, 8 D2

## MOSFET-P
designator Q1, comment AO3415
P-Channel MOSFET; PackageDocument: 1995/1996; Published: 8-Jun-2000; LatestRevisionDate: 17-Jul-2002; LatestRevisionNote: Re-released for DXP Platform.; PackageReference: E3; Publisher: Altium Limited
footprint SOT-23
simulation model PMOS (MOSFET-P)
pins: 1 G, 2 S, 3 D

## MOSFET_P
designator Q?, comment IRLML6401
TRAN PMOS PWR 12V 4.3A SOT23; AGILE_PN: 480-77718; MFG_NAME01: INTERNATIONAL RECTIFIER; MFG_PN01: IRLML6401TRPBF; CAD_APPROVED: Yes; ROHS: Yes; HEIGHT: 1.12MM
footprint sot-23
pins: 1 GATE (in), 2 SOURCE (in), 3 DRAIN (in)

## MOSFET_P_1
designator Q6, comment IRLML6401
TRAN PMOS PWR 12V 4.3A SOT23; AGILE_PN: 480-77718; MFG_NAME01: INTERNATIONAL RECTIFIER; MFG_PN01: IRLML6401TRPBF; CAD_APPROVED: Yes; ROHS: Yes; HEIGHT: 1.12MM
footprint sot-23
pins: 1 GATE (in), 2 SOURCE (in), 3 DRAIN (in)

## MOSFET_P_2
designator Q6, comment IRLML6401
TRAN PMOS PWR 12V 4.3A SOT23; AGILE_PN: 480-77718; MFG_NAME01: INTERNATIONAL RECTIFIER; MFG_PN01: IRLML6401TRPBF; CAD_APPROVED: Yes; ROHS: Yes; HEIGHT: 1.12MM
footprint sot-23
pins: 1 GATE (in), 2 SOURCE (in), 3 DRAIN (in)

## MP2104DJ
designator U?
ROOM: 14
pins: 1 RUN, 2 GND, 3 SW, 4 VIN, 5 VFB

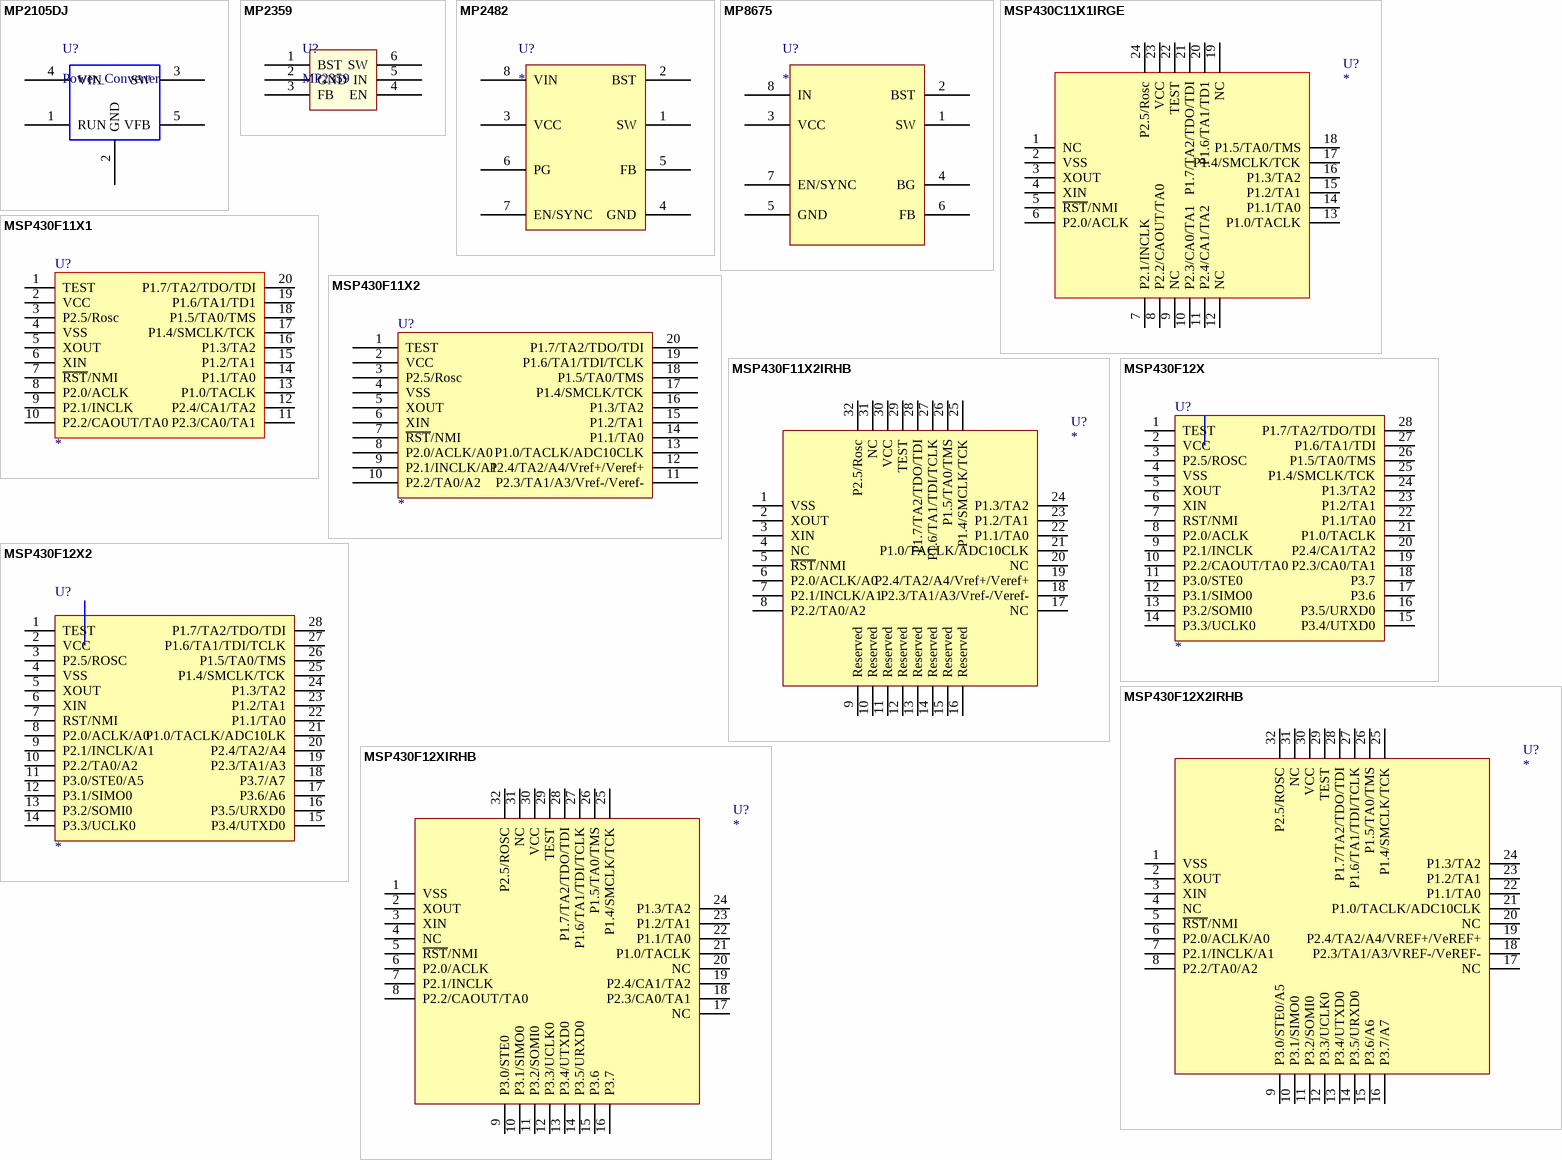
[diagram p13: symbols MP2105DJ to MSP430F12XIRHB]

## MP2105DJ
designator U?, comment Power_Converter
Value: MP2105DJ
pins: 1 RUN, 2 GND, 3 SW, 4 VIN, 5 VFB

## MP2359
designator U?
pins: 1 BST, 2 GND, 3 FB, 4 EN, 5 IN, 6 SW

## MP2482
designator U?
pins: 1 SW, 2 BST, 3 VCC, 4 GND, 5 FB, 6 PG, 7 EN/SYNC, 8 VIN

## MP8675
designator U?
pins: 1 SW, 2 BST, 3 VCC, 4 BG, 5 GND, 6 FB, 7 EN/SYNC, 8 IN

## MSP430C11X1IRGE
designator U?
footprint QFN24
pins: 1 NC, 2 VSS (power), 3 XOUT (power), 4 XIN (power), 5 ~{RST}/NMI (power), 6 P2.0/ACLK (power), 7 P2.1/INCLK (power), 8 P2.2/CAOUT/TA0 (power), 9 NC, 10 P2.3/CA0/TA1 (power), 11 P2.4/CA1/TA2 (power), 12 NC, 13 P1.0/TACLK (power), 14 P1.1/TA0 (power), 15 P1.2/TA1 (power), 16 P1.3/TA2 (power), 17 P1.4/SMCLK/TCK (power), 18 P1.5/TA0/TMS (power), 19 NC, 20 P1.6/TA1/TD1 (power), 21 P1.7/TA2/TDO/TDI (power), 22 TEST, 23 VCC (power), 24 P2.5/Rosc (power)

## MSP430F11X1
designator U?
footprint R-PDSO-G20(PW)
footprint R-PDSO-G20(DW)
footprint R-PDSO-G20(DGV)
pins: 1 TEST, 2 VCC (power), 3 P2.5/Rosc (power), 4 VSS (power), 5 XOUT (power), 6 XIN (power), 7 ~{RST}/NMI (power), 8 P2.0/ACLK (power), 9 P2.1/INCLK (power), 10 P2.2/CAOUT/TA0 (power), 11 P2.3/CA0/TA1 (power), 12 P2.4/CA1/TA2 (power), 13 P1.0/TACLK (power), 14 P1.1/TA0 (power), 15 P1.2/TA1 (power), 16 P1.3/TA2 (power), 17 P1.4/SMCLK/TCK (power), 18 P1.5/TA0/TMS (power), 19 P1.6/TA1/TD1 (power), 20 P1.7/TA2/TDO/TDI (power)

## MSP430F11X2
designator U?
footprint R-PDSO-G20(PW)
footprint R-PDSO-G20(DW)
footprint R-PDSO-G20(DGV)
pins: 1 TEST, 2 VCC (power), 3 P2.5/Rosc (power), 4 VSS (power), 5 XOUT (power), 6 XIN (power), 7 ~{RST}/NMI (power), 8 P2.0/ACLK/A0 (power), 9 P2.1/INCLK/A1 (power), 10 P2.2/TA0/A2 (power), 11 P2.3/TA1/A3/Vref-/Veref- (power), 12 P2.4/TA2/A4/Vref+/Veref+ (power), 13 P1.0/TACLK/ADC10CLK (power), 14 P1.1/TA0 (power), 15 P1.2/TA1 (power), 16 P1.3/TA2 (power), 17 P1.4/SMCLK/TCK (power), 18 P1.5/TA0/TMS (power), 19 P1.6/TA1/TDI/TCLK (power), 20 P1.7/TA2/TDO/TDI (power)

## MSP430F11X2IRHB
designator U?
footprint QFN32
pins: 1 VSS (power), 2 XOUT (power), 3 XIN (power), 4 NC, 5 ~{RST}/NMI (power), 6 P2.0/ACLK/A0 (power), 7 P2.1/INCLK/A1 (power), 8 P2.2/TA0/A2 (power), 9 Reserved, 10 Reserved, 11 Reserved, 12 Reserved, 13 Reserved, 14 Reserved, 15 Reserved, 16 Reserved, 17 NC, 18 P2.3/TA1/A3/Vref-/Veref- (power), 19 P2.4/TA2/A4/Vref+/Veref+ (power), 20 NC, 21 P1.0/TACLK/ADC10CLK (power), 22 P1.1/TA0 (power), 23 P1.2/TA1 (power), 24 P1.3/TA2 (power), 25 P1.4/SMCLK/TCK (power), 26 P1.5/TA0/TMS (power), 27 P1.6/TA1/TDI/TCLK (power), 28 P1.7/TA2/TDO/TDI (power), 29 TEST, 30 VCC (power), 31 NC, 32 P2.5/Rosc (power)

## MSP430F12X
designator U?
footprint R-PDSO-G28(PW)
footprint R-PDSO-G28(DW)
pins: 1 TEST, 2 VCC, 3 P2.5/ROSC, 4 VSS, 5 XOUT, 6 XIN, 7 RST/NMI, 8 P2.0/ACLK, 9 P2.1/INCLK, 10 P2.2/CAOUT/TA0, 11 P3.0/STE0, 12 P3.1/SIMO0, 13 P3.2/SOMI0, 14 P3.3/UCLK0, 15 P3.4/UTXD0, 16 P3.5/URXD0, 17 P3.6, 18 P3.7, 19 P2.3/CA0/TA1, 20 P2.4/CA1/TA2, 21 P1.0/TACLK, 22 P1.1/TA0, 23 P1.2/TA1, 24 P1.3/TA2, 25 P1.4/SMCLK/TCK, 26 P1.5/TA0/TMS, 27 P1.6/TA1/TDI, 28 P1.7/TA2/TDO/TDI

## MSP430F12X2
designator U?
footprint R-PDSO-G28(PW)
footprint R-PDSO-G28DW)
pins: 1 TEST, 2 VCC, 3 P2.5/ROSC, 4 VSS, 5 XOUT, 6 XIN, 7 RST/NMI, 8 P2.0/ACLK/A0, 9 P2.1/INCLK/A1, 10 P2.2/TA0/A2, 11 P3.0/STE0/A5, 12 P3.1/SIMO0, 13 P3.2/SOMI0, 14 P3.3/UCLK0, 15 P3.4/UTXD0, 16 P3.5/URXD0, 17 P3.6/A6, 18 P3.7/A7, 19 P2.3/TA1/A3, 20 P2.4/TA2/A4, 21 P1.0/TACLK/ADC10LK, 22 P1.1/TA0, 23 P1.2/TA1, 24 P1.3/TA2, 25 P1.4/SMCLK/TCK, 26 P1.5/TA0/TMS, 27 P1.6/TA1/TDI/TCLK, 28 P1.7/TA2/TDO/TDI

## MSP430F12X2IRHB
designator U?
footprint QFN32
pins: 1 VSS (power), 2 XOUT (power), 3 XIN (power), 4 NC (power), 5 ~{RST}/NMI (power), 6 P2.0/ACLK/A0 (power), 7 P2.1/INCLK/A1 (power), 8 P2.2/TA0/A2 (power), 9 P3.0/STE0/A5 (power), 10 P3.1/SIMO0 (power), 11 P3.2/SOMI0 (power), 12 P3.3/UCLK0 (power), 13 P3.4/UTXD0 (power), 14 P3.5/URXD0 (power), 15 P3.6/A6 (power), 16 P3.7/A7 (power), 17 NC (power), 18 P2.3/TA1/A3/VREF-/VeREF- (power), 19 P2.4/TA2/A4/VREF+/VeREF+ (power), 20 NC (power), 21 P1.0/TACLK/ADC10CLK (power), 22 P1.1/TA0 (power), 23 P1.2/TA1 (power), 24 P1.3/TA2 (power), 25 P1.4/SMCLK/TCK (power), 26 P1.5/TA0/TMS (power), 27 P1.6/TA1/TDI/TCLK (power), 28 P1.7/TA2/TDO/TDI (power), 29 TEST (power), 30 VCC (power), 31 NC (power), 32 P2.5/ROSC (power)